# Altium integrated library Atmel Microcontroller 32-Bit ARM.IntLib: 116 symbols (part 2 of 10)
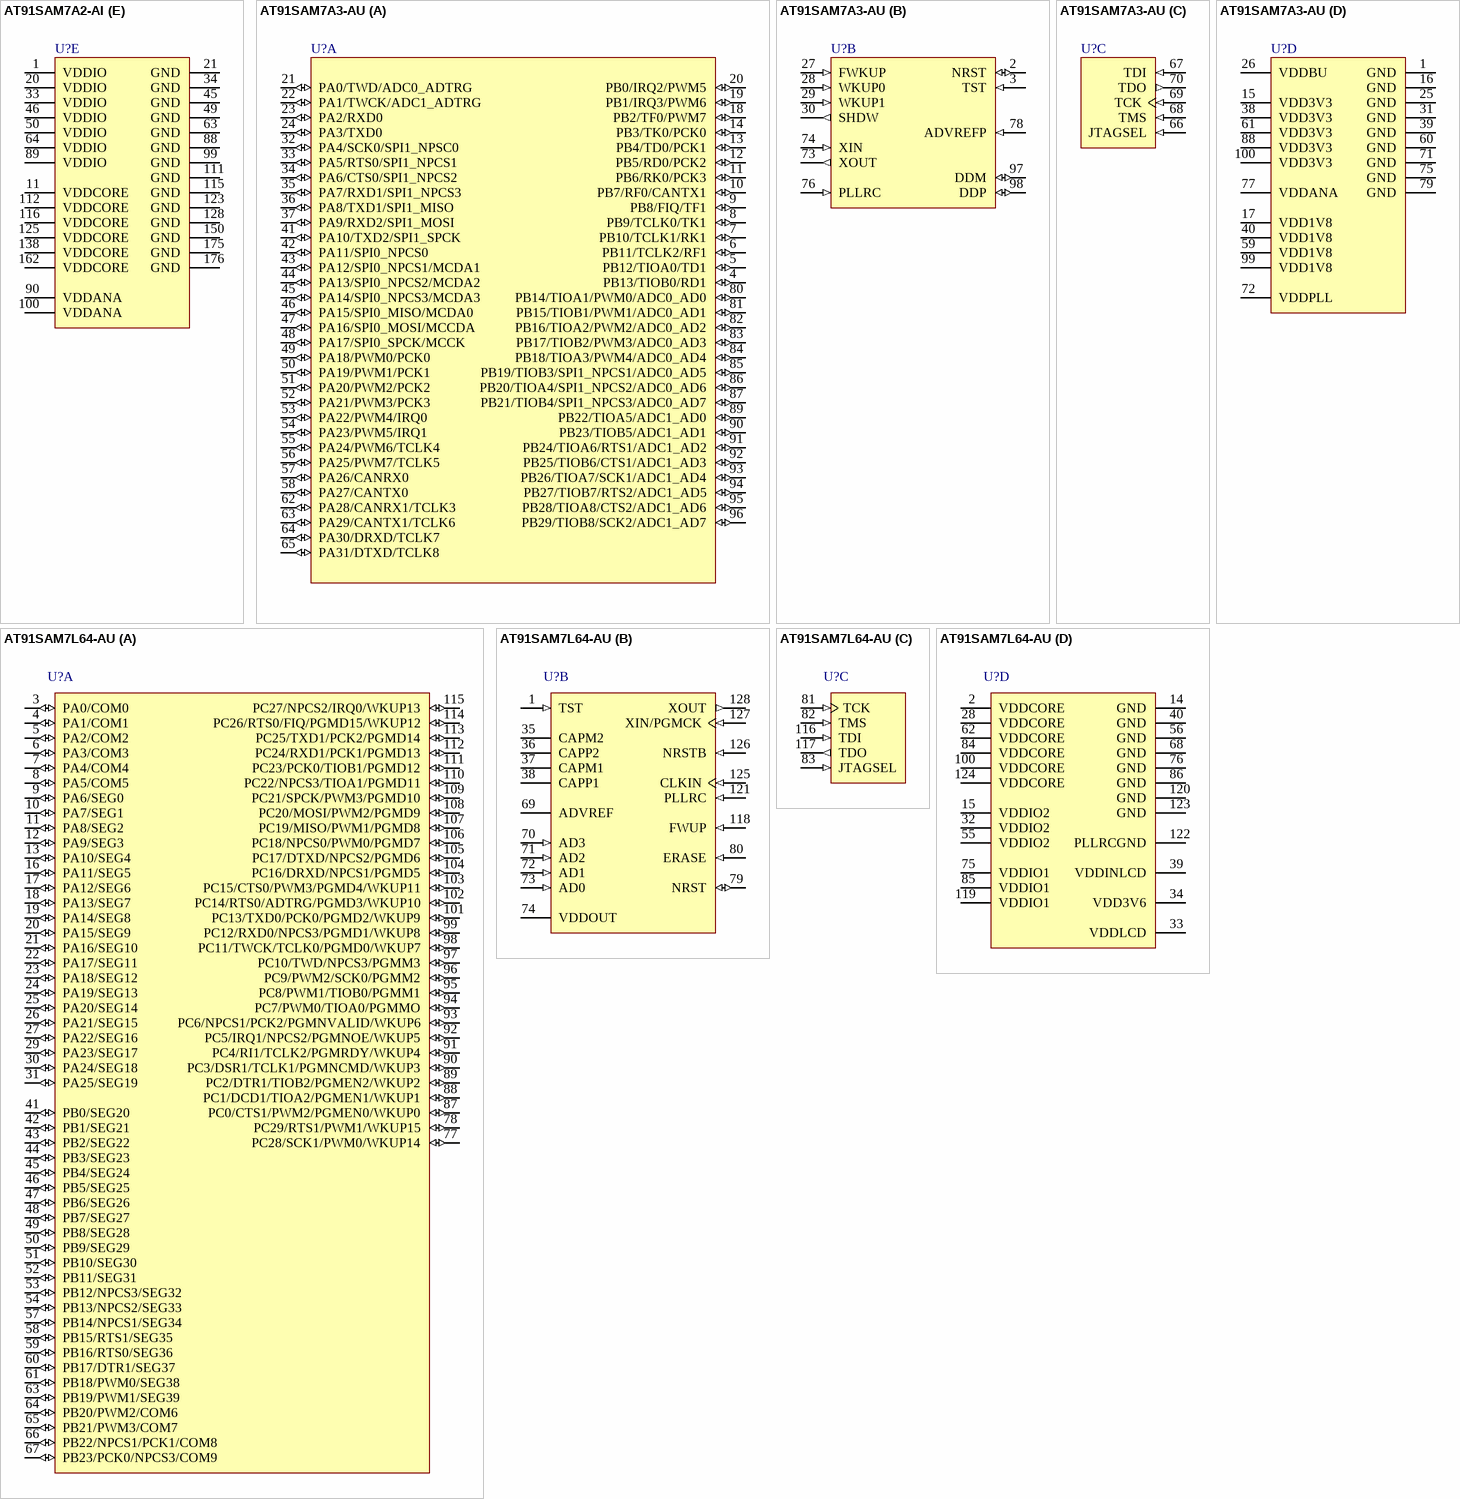
[diagram p53: symbols AT91SAM7A2-AI to AT91SAM7L64-AU]

## AT91SAM7A2-AI
designator U?
AT91 ARM Thumb-based 32-bit Microcontroller, 16KB SRAM, EBI, 4CAN, 2x8-ch. 10-bit ADC, 176-Pin LQFP, Industrial Grade (-40°C to 85°C); ComponentAvailability: Not recommended for new design.; Published: 16-Oct-2006; DatasheetVersion: revBS, Jul-2004; PackageVersion: Jul-2004; PackageReference: LQFP176; Publisher: Altium Limited; PackageDescription: 176-Pin Thin Quad Flat Pack 0.5 mm Pitch; Code_JEDEC: MS-026-BGA; ComponentLink1Description: Manufacturer Link; ComponentLink1URL: http://www.atmel.com/products/AT91/default.asp?; ComponentLink2Description: AT91SAM7A2 Summary; ComponentLink2URL: http://www.atmel.com/dyn/resources/prod_documents/6021S.pdf; ComponentLink3Description: ARM7TDMI Reference Manual; ComponentLink3URL: http://www.atmel.com/dyn/resources/prod_documents/DDI0029G_7TDMI_R3_trm.pdf; ComponentLink4Description: Atmel.com Home; ComponentLink4URL: http://www.atmel.com
footprint LQFP176_N (Thin QFP, 176-Leads, Body 24x24mm, Pitch 0.5mm, IPC Medium Density)
footprint LQFP176_L (Thin QFP, 176-Leads, Body 24x24mm, Pitch 0.5mm, IPC High Density)
footprint LQFP176_M (Thin QFP, 176-Leads, Body 24x24mm, Pitch 0.5mm, IPC Low Density)
part A pins: 5 SCK0/MPIO (io), 6 TXD0/MPIO (io), 7 RXD0/MPIO (io), 8 SCK1/MPIO (io), 9 TXD1/MPIO (io), 10 RXD1/MPIO (io), 16 SPCK/MPIO (io), 17 MISO/MPIO (io), 18 MOSI/MPIO (io), 19 NPCS0/MPIO (io), 22 NPCS1/MPIO (io), 23 NPCS2/MPIO (io), 24 NPCS3/MPIO (io), 25 T0TIOA0/MPIO (io), 26 T0TIOB0/MPIO (io), 27 T0TCLK0/MPIO (io), 28 T0TIOA1/MPIO (io), 29 T0TIOB1/MPIO (io), 30 T0TCLK1/MPIO (io), 31 T0TIOA2/MPIO (io), 32 T0TIOB2/MPIO (io), 35 T0TCLK2/MPIO (io), 36 T1TIOA0/MPIO (io), 37 T1TIOB0/MPIO (io), 38 T1TCLK0/MPIO (io), 40 UPIO0 (io), 41 UPIO1 (io), 42 UPIO2 (io), 43 UPIO3 (io), 44 UPIO4 (io), 47 UPIO5 (io), 48 UPIO6 (io), 51 UPIO7 (io), 52 UPIO8 (io), 53 UPIO9 (io), 54 UPIO10 (io), 55 UPIO11 (io), 56 UPIO12 (io), 57 UPIO13 (io), 58 UPIO14 (io), 59 UPIO15 (io), 60 UPIO16 (io), 61 UPIO17 (io), 62 UPIO18 (io), 65 UPIO19 (io), 66 UPIO20 (io), 67 UPIO21 (io), 68 UPIO22 (io), 69 UPIO23 (io), 70 UPIO24 (io), 71 UPIO25 (io), 72 UPIO26 (io), 73 UPIO27 (io), 74 UPIO28 (io), 75 UPIO29 (io), 76 UPIO30/NWAIT (io), 77 UPIO31/CORECLK (io)
part B pins: 130 D8 (io), 131 D1 (io), 132 D0 (io), 135 ADD1 (hiz), 136 D9 (io), 137 D2 (io), 139 D10 (io), 140 D3 (io), 141 D11 (io), 142 D4 (io), 143 D12 (io), 144 D5 (io), 145 D13 (io), 146 D6 (io), 147 D14 (io), 148 D7 (io), 149 D15 (io), 151 ADD0/NLB (hiz), 152 ADD17 (hiz), 153 ADD16 (hiz), 154 ADD15 (hiz), 155 ADD14 (hiz), 156 ADD13 (hiz), 157 ADD12 (hiz), 158 ADD11 (hiz), 159 ADD10 (hiz), 160 ADD9 (hiz), 161 ADD20/CS3 (hiz), 166 ADD19 (hiz), 167 ADD18 (hiz), 168 ADD8 (hiz), 169 ADD7 (hiz), 170 ADD6 (hiz), 171 ADD2 (hiz), 172 ADD3 (hiz), 173 ADD4 (hiz), 174 ADD5 (hiz)
part C pins: 2 IRQ0 (in), 3 IRQ1 (in), 4 FIQ (in), 12 CANTX3 (out), 13 CANRX3 (in), 14 CAPT0 (in), 15 CAPT1 (in), 39 NRESET (in), 78 CANTX0 (out), 79 CANRX0 (in), 80 CANTX1 (out), 81 CANRX1 (in), 82 CANTX2 (out), 83 CANRX2 (in), 84 PWM0 (out), 85 PWM1 (out), 86 PWM2 (out), 87 PWM3 (out), 91 VREFP0 (in), 92 ANA0IN0 (in), 93 ANA0IN1 (in), 94 ANA0IN2 (in), 95 ANA0IN3 (in), 96 ANA0IN4 (in), 97 ANA0IN5 (in), 98 ANA0IN6 (in), 101 ANA0IN7 (in), 102 VREFP1 (in), 103 ANA1IN0 (in), 104 ANA1IN1 (in), 105 ANA1IN2 (in), 106 ANA1IN3 (in), 107 ANA1IN4 (in), 108 ANA1IN5 (in), 109 ANA1IN6 (in), 110 ANA1IN7 (in), 113 RTCKI (in), 114 RTCKO (out), 124 PLLRC (in), 126 MCKI (in), 127 MCKO (out), 129 NWR1/NUB (hiz), 133 NOE/NRD (hiz), 134 NCS0 (hiz), 163 NWR0/NWE (hiz), 164 NCS2 (hiz), 165 NCS1 (hiz)
part D pins: 117 SCANEN (in), 118 TEST (in), 119 TMS (in), 120 TDO (out), 121 TDI (in), 122 TCK (in)
part E pins: 1 VDDIO (power), 11 VDDCORE (power), 20 VDDIO (power), 21 GND (power), 33 VDDIO (power), 34 GND (power), 45 GND (power), 46 VDDIO (power), 49 GND (power), 50 VDDIO (power), 63 GND (power), 64 VDDIO (power), 88 GND (power), 89 VDDIO (power), 90 VDDANA (power), 99 GND (power), 100 VDDANA (power), 111 GND (power), 112 VDDCORE (power), 115 GND (power), 116 VDDCORE (power), 123 GND (power), 125 VDDCORE (power), 128 GND (power), 138 VDDCORE (power), 150 GND (power), 162 VDDCORE (power), 175 GND (power), 176 GND (power)

## AT91SAM7A3-AU
designator U?
AT91 ARM Thumb-based 32-bit Microcontroller, 256KB Flash, 32KB SRAM, 2CAN, 100-Pin LQFP, Industrial Grade (-40°C to 85°C), Pb-Free; Published: 16-Oct-2006; DatasheetVersion: revE, Dec-2006; PackageVersion: Apr-2006; PackageReference: LQFP100; Publisher: Altium Limited; PackageDescription: 100-Pin Thin Quad Flat Pack 0.5 mm Pitch; Supplier 1: Digi-Key; Supplier Part Number 1: AT91SAM7A3-AU-ND; Supplier 2: Farnell; Supplier Part Number 2: 1455079; Supplier 3: Mouser; Supplier Part Number 3: 556-A91SAM7A3AU; Code_JEDEC: MS-026-BED; ComponentLink1Description: Manufacturer Link; ComponentLink1URL: http://www.atmel.com/products/AT91/default.asp?; ComponentLink2Description: AT91SAM7A3 Datasheet; ComponentLink2URL: http://www.atmel.com/dyn/resources/prod_documents/doc6042.pdf; ComponentLink3Description: AT91SAM7A3 Summary; ComponentLink3URL: http://www.atmel.com/dyn/resources/prod_documents/6042s.pdf; ComponentLink4Description: ARM7TDMI Reference Manual; ComponentLink4URL: http://www.atmel.com/dyn/resources/prod_documents/DDI0029G_7TDMI_R3_trm.pdf; ComponentLink5Description: Atmel.com Home; ComponentLink5URL: http://www.atmel.com
footprint LQFP100_N (Thin QFP, 100-Leads, Body 14x14mm, Pitch 0.5mm, IPC Medium Density)
footprint LQFP100_L (Thin QFP, 100-Leads, Body 14x14mm, Pitch 0.5mm, IPC High Density)
footprint LQFP100_M (Thin QFP, 100-Leads, Body 14x14mm, Pitch 0.5mm, IPC Low Density)
part A pins: 4 PB13/TIOB0/RD1 (io), 5 PB12/TIOA0/TD1 (io), 6 PB11/TCLK2/RF1 (io), 7 PB10/TCLK1/RK1 (io), 8 PB9/TCLK0/TK1 (io), 9 PB8/FIQ/TF1 (io), 10 PB7/RF0/CANTX1 (io), 11 PB6/RK0/PCK3 (io), 12 PB5/RD0/PCK2 (io), 13 PB4/TD0/PCK1 (io), 14 PB3/TK0/PCK0 (io), 18 PB2/TF0/PWM7 (io), 19 PB1/IRQ3/PWM6 (io), 20 PB0/IRQ2/PWM5 (io), 21 PA0/TWD/ADC0_ADTRG (io), 22 PA1/TWCK/ADC1_ADTRG (io), 23 PA2/RXD0 (io), 24 PA3/TXD0 (io), 32 PA4/SCK0/SPI1_NPSC0 (io), 33 PA5/RTS0/SPI1_NPCS1 (io), 34 PA6/CTS0/SPI1_NPCS2 (io), 35 PA7/RXD1/SPI1_NPCS3 (io), 36 PA8/TXD1/SPI1_MISO (io), 37 PA9/RXD2/SPI1_MOSI (io), 41 PA10/TXD2/SPI1_SPCK (io), 42 PA11/SPI0_NPCS0 (io), 43 PA12/SPI0_NPCS1/MCDA1 (io), 44 PA13/SPI0_NPCS2/MCDA2 (io), 45 PA14/SPI0_NPCS3/MCDA3 (io), 46 PA15/SPI0_MISO/MCDA0 (io), 47 PA16/SPI0_MOSI/MCCDA (io), 48 PA17/SPI0_SPCK/MCCK (io), 49 PA18/PWM0/PCK0 (io), 50 PA19/PWM1/PCK1 (io), 51 PA20/PWM2/PCK2 (io), 52 PA21/PWM3/PCK3 (io), 53 PA22/PWM4/IRQ0 (io), 54 PA23/PWM5/IRQ1 (io), 55 PA24/PWM6/TCLK4 (io), 56 PA25/PWM7/TCLK5 (io), 57 PA26/CANRX0 (io), 58 PA27/CANTX0 (io), 62 PA28/CANRX1/TCLK3 (io), 63 PA29/CANTX1/TCLK6 (io), 64 PA30/DRXD/TCLK7 (io), 65 PA31/DTXD/TCLK8 (io), 80 PB14/TIOA1/PWM0/ADC0_AD0 (io), 81 PB15/TIOB1/PWM1/ADC0_AD1 (io), 82 PB16/TIOA2/PWM2/ADC0_AD2 (io), 83 PB17/TIOB2/PWM3/ADC0_AD3 (io), 84 PB18/TIOA3/PWM4/ADC0_AD4 (io), 85 PB19/TIOB3/SPI1_NPCS1/ADC0_AD5 (io), 86 PB20/TIOA4/SPI1_NPCS2/ADC0_AD6 (io), 87 PB21/TIOB4/SPI1_NPCS3/ADC0_AD7 (io), 89 PB22/TIOA5/ADC1_AD0 (io), 90 PB23/TIOB5/ADC1_AD1 (io), 91 PB24/TIOA6/RTS1/ADC1_AD2 (io), 92 PB25/TIOB6/CTS1/ADC1_AD3 (io), 93 PB26/TIOA7/SCK1/ADC1_AD4 (io), 94 PB27/TIOB7/RTS2/ADC1_AD5 (io), 95 PB28/TIOA8/CTS2/ADC1_AD6 (io), 96 PB29/TIOB8/SCK2/ADC1_AD7 (io)
part B pins: 2 NRST (io), 3 TST (in), 27 FWKUP (in), 28 WKUP0 (in), 29 WKUP1 (in), 30 SHDW (out), 73 XOUT (out), 74 XIN (in), 76 PLLRC (in), 78 ADVREFP (in), 97 DDM (io), 98 DDP (io)
part C pins: 66 JTAGSEL (in), 67 TDI (in), 68 TMS (in), 69 TCK (in), 70 TDO (out)
part D pins: 1 GND (power), 15 VDD3V3 (power), 16 GND (power), 17 VDD1V8 (power), 25 GND (power), 26 VDDBU (power), 31 GND (power), 38 VDD3V3 (power), 39 GND (power), 40 VDD1V8 (power), 59 VDD1V8 (power), 60 GND (power), 61 VDD3V3 (power), 71 GND (power), 72 VDDPLL (power), 75 GND (power), 77 VDDANA (power), 79 GND (power), 88 VDD3V3 (power), 99 VDD1V8 (power), 100 VDD3V3 (power)

## AT91SAM7L64-AU
designator U?
AT91 ARM Thumb-based 32-bit Microcontroller, Ultra Low Power, 64KB Flash, 6KB SRAM, 128-pin LQFP, Industrial Grade (-40°C to 85°C), Pb-Free; Published: 20-Sep-2010; DatasheetVersion: revA, Feb-2008; PackageVersion: 2008; PackageReference: LQFP128; Publisher: Altium Limited; PackageDescription: 128-Pin Thin Quad Flat Pack Rectangular 0.5 mm Pitch; Supplier 1: Digi-Key; Supplier Part Number 1: AT91SAM7L64-AU-ND; Supplier 2: Farnell; Supplier Part Number 2: 1748501; Supplier 3: Mouser; Supplier Part Number 3: 556-AT91SAM7L64-AU; Code_JEDEC: MS-026; ComponentLink1Description: Manufacturer Link; ComponentLink1URL: http://www.atmel.com/products/AT91/default.asp?; ComponentLink2Description: AT91SAM7L128/64 Datasheet; ComponentLink2URL: http://www.atmel.com/dyn/resources/prod_documents/doc6257.pdf; ComponentLink3Description: AT91SAM7L128/64 Summary; ComponentLink3URL: http://www.atmel.com/dyn/resources/prod_documents/6257s.pdf; ComponentLink4Description: ARM7TDMI Reference Manual; ComponentLink4URL: http://www.atmel.com/dyn/resources/prod_documents/DDI0029G_7TDMI_R3_trm.pdf; ComponentLink5Description: Atmel.com Home; ComponentLink5URL: http://www.atmel.com
footprint LQFP128_N (Thin QFP, 128-Leads, Body 20x14 mm, Pitch 0.5mm, IPC Medium Density)
footprint LQFP128_L (Thin QFP, 128-Leads, Body 20x14 mm, Pitch 0.5mm, IPC High Density)
footprint LQFP128_M (Thin QFP, 128-Leads, Body 20x14 mm, Pitch 0.5mm, IPC Low Density)
part A pins: 3 PA0/COM0 (io), 4 PA1/COM1 (io), 5 PA2/COM2 (io), 6 PA3/COM3 (io), 7 PA4/COM4 (io), 8 PA5/COM5 (io), 9 PA6/SEG0 (io), 10 PA7/SEG1 (io), 11 PA8/SEG2 (io), 12 PA9/SEG3 (io), 13 PA10/SEG4 (io), 16 PA11/SEG5 (io), 17 PA12/SEG6 (io), 18 PA13/SEG7 (io), 19 PA14/SEG8 (io), 20 PA15/SEG9 (io), 21 PA16/SEG10 (io), 22 PA17/SEG11 (io), 23 PA18/SEG12 (io), 24 PA19/SEG13 (io), 25 PA20/SEG14 (io), 26 PA21/SEG15 (io), 27 PA22/SEG16 (io), 29 PA23/SEG17 (io), 30 PA24/SEG18 (io), 31 PA25/SEG19 (io), 41 PB0/SEG20 (io), 42 PB1/SEG21 (io), 43 PB2/SEG22 (io), 44 PB3/SEG23 (io), 45 PB4/SEG24 (io), 46 PB5/SEG25 (io), 47 PB6/SEG26 (io), 48 PB7/SEG27 (io), 49 PB8/SEG28 (io), 50 PB9/SEG29 (io), 51 PB10/SEG30 (io), 52 PB11/SEG31 (io), 53 PB12/NPCS3/SEG32 (io), 54 PB13/NPCS2/SEG33 (io), 57 PB14/NPCS1/SEG34 (io), 58 PB15/RTS1/SEG35 (io), 59 PB16/RTS0/SEG36 (io), 60 PB17/DTR1/SEG37 (io), 61 PB18/PWM0/SEG38 (io), 63 PB19/PWM1/SEG39 (io), 64 PB20/PWM2/COM6 (io), 65 PB21/PWM3/COM7 (io), 66 PB22/NPCS1/PCK1/COM8 (io), 67 PB23/PCK0/NPCS3/COM9 (io), 77 PC28/SCK1/PWM0/WKUP14 (io), 78 PC29/RTS1/PWM1/WKUP15 (io), 87 PC0/CTS1/PWM2/PGMEN0/WKUP0 (io), 88 PC1/DCD1/TIOA2/PGMEN1/WKUP1 (io), 89 PC2/DTR1/TIOB2/PGMEN2/WKUP2 (io), 90 PC3/DSR1/TCLK1/PGMNCMD/WKUP3 (io), 91 PC4/RI1/TCLK2/PGMRDY/WKUP4 (io), 92 PC5/IRQ1/NPCS2/PGMNOE/WKUP5 (io), 93 PC6/NPCS1/PCK2/PGMNVALID/WKUP6 (io), 94 PC7/PWM0/TIOA0/PGMMO (io), 95 PC8/PWM1/TIOB0/PGMM1 (io), 96 PC9/PWM2/SCK0/PGMM2 (io), 97 PC10/TWD/NPCS3/PGMM3 (io), 98 PC11/TWCK/TCLK0/PGMD0/WKUP7 (io), 99 PC12/RXD0/NPCS3/PGMD1/WKUP8 (io), 101 PC13/TXD0/PCK0/PGMD2/WKUP9 (io), 102 PC14/RTS0/ADTRG/PGMD3/WKUP10 (io), 103 PC15/CTS0/PWM3/PGMD4/WKUP11 (io), 104 PC16/DRXD/NPCS1/PGMD5 (io), 105 PC17/DTXD/NPCS2/PGMD6 (io), 106 PC18/NPCS0/PWM0/PGMD7 (io), 107 PC19/MISO/PWM1/PGMD8 (io), 108 PC20/MOSI/PWM2/PGMD9 (io), 109 PC21/SPCK/PWM3/PGMD10 (io), 110 PC22/NPCS3/TIOA1/PGMD11 (io), 111 PC23/PCK0/TIOB1/PGMD12 (io), 112 PC24/RXD1/PCK1/PGMD13 (io), 113 PC25/TXD1/PCK2/PGMD14 (io), 114 PC26/RTS0/FIQ/PGMD15/WKUP12 (io), 115 PC27/NPCS2/IRQ0/WKUP13 (io)
part B pins: 1 TST (in), 35 CAPM2, 36 CAPP2, 37 CAPM1, 38 CAPP1, 69 ADVREF (power), 70 AD3 (in), 71 AD2 (in), 72 AD1 (in), 73 AD0 (in), 74 VDDOUT (power), 79 NRST (io), 80 ERASE (in), 118 FWUP (in), 121 PLLRC (in), 125 CLKIN (in), 126 NRSTB (in), 127 XIN/PGMCK (in), 128 XOUT (out)
part C pins: 81 TCK (in), 82 TMS (in), 83 JTAGSEL (in), 116 TDI (in), 117 TDO (out)
part D pins: 2 VDDCORE (power), 14 GND (power), 15 VDDIO2 (power), 28 VDDCORE (power), 32 VDDIO2 (power), 33 VDDLCD (power), 34 VDD3V6 (power), 39 VDDINLCD (power), 40 GND (power), 55 VDDIO2 (power), 56 GND (power), 62 VDDCORE (power), 68 GND (power), 75 VDDIO1 (power), 76 GND (power), 84 VDDCORE (power), 85 VDDIO1 (power), 86 GND (power), 100 VDDCORE (power), 119 VDDIO1 (power), 120 GND (power), 122 PLLRCGND (power), 123 GND (power), 124 VDDCORE (power)

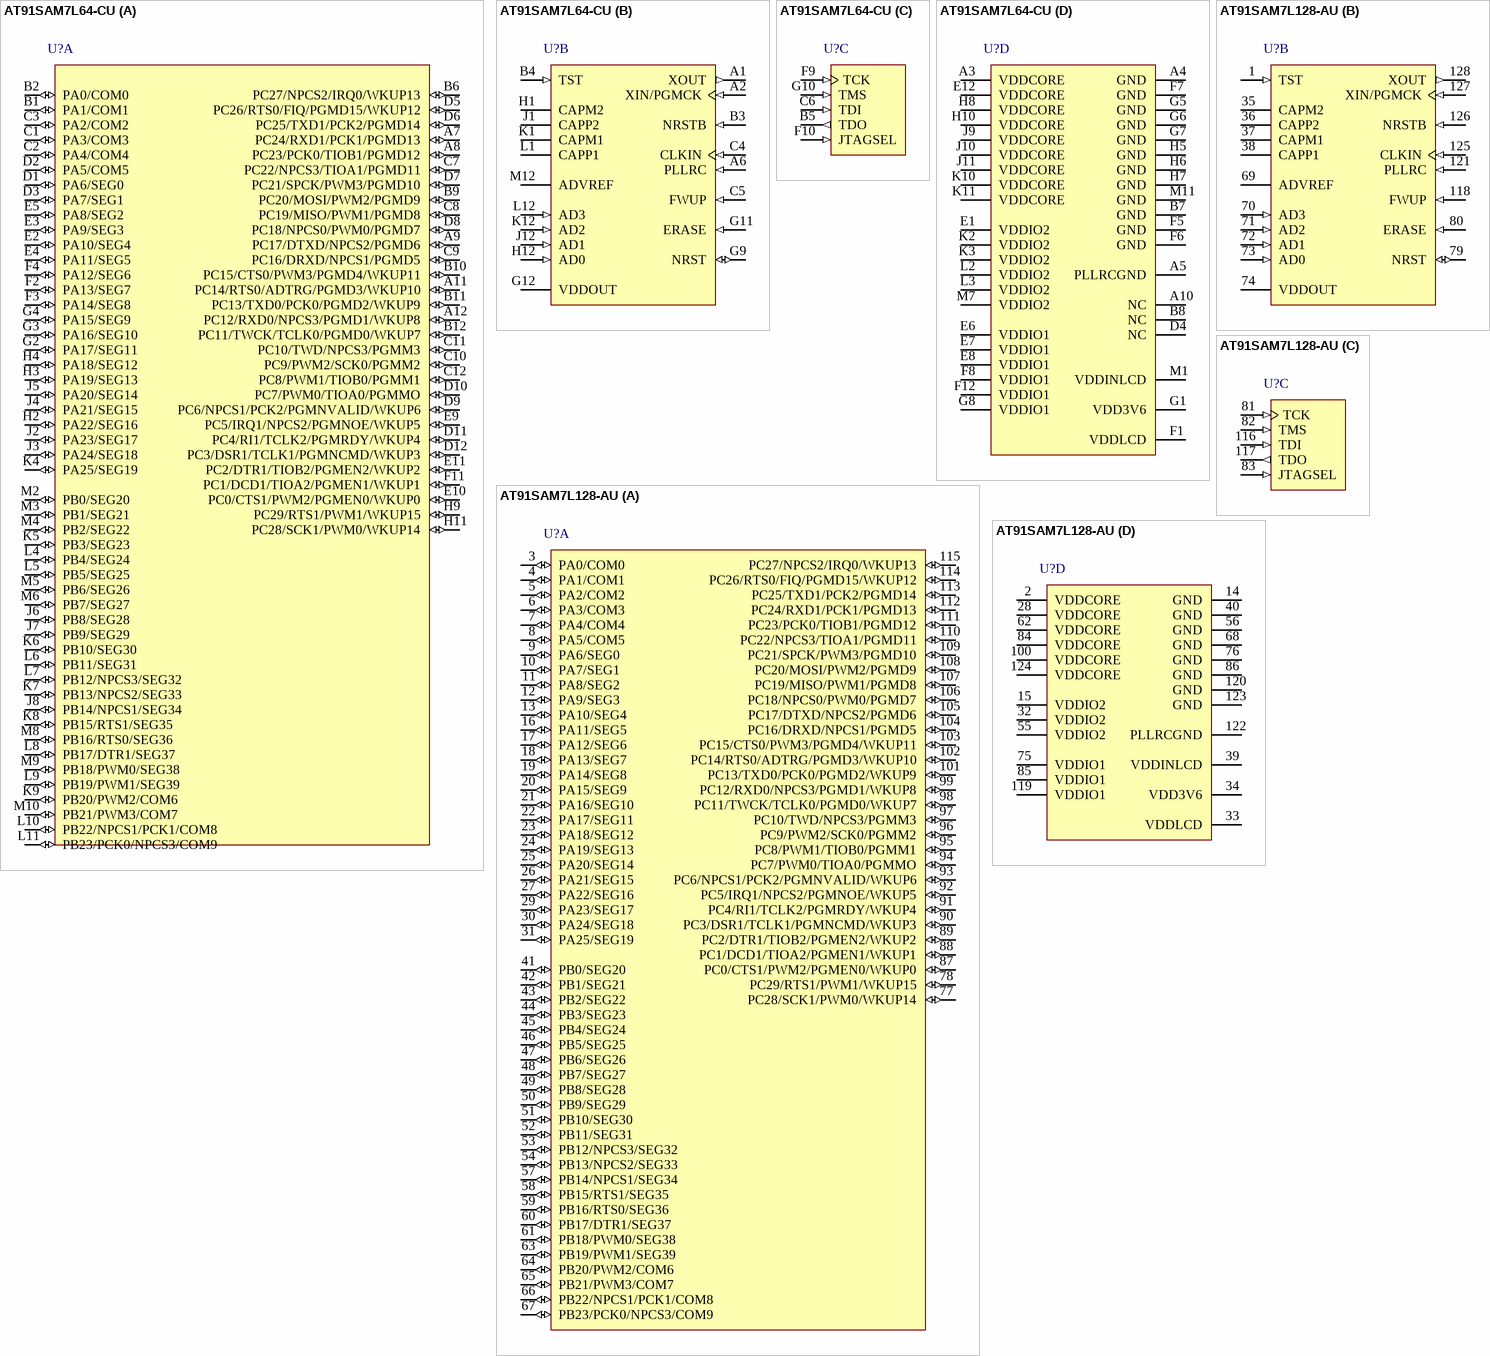
[diagram p7: symbols AT91SAM7L64-CU to AT91SAM7L128-AU]

## AT91SAM7L64-CU
designator U?
AT91 ARM Thumb-based 32-bit Microcontroller, Ultra Low Power, 64KB Flash, 6KB SRAM, 144-pin LFBGA, Industrial Grade (-40°C to 85°C), Pb-Free; Published: 20-Sep-2010; DatasheetVersion: revA, Feb-2008; PackageVersion: 2008; PackageReference: LFBGA144; Publisher: Altium Limited; PackageDescription: 144-Ball Low Profile Fine Pitch BGA, 10 x 10 x 1.4 mm Body, 0.8 mm Pitch; Supplier 1: Digi-Key; Supplier Part Number 1: AT91SAM7L64-CU-ND; Supplier 2: Mouser; Supplier Part Number 2: 556-AT91SAM7L64-CU; Code_JEDEC: MS-026; ComponentLink1Description: Manufacturer Link; ComponentLink1URL: http://www.atmel.com/products/AT91/default.asp?; ComponentLink2Description: AT91SAM7L128/64 Datasheet; ComponentLink2URL: http://www.atmel.com/dyn/resources/prod_documents/doc6257.pdf; ComponentLink3Description: AT91SAM7L128/64 Summary; ComponentLink3URL: http://www.atmel.com/dyn/resources/prod_documents/6257s.pdf; ComponentLink4Description: ARM7TDMI Reference Manual; ComponentLink4URL: http://www.atmel.com/dyn/resources/prod_documents/DDI0029G_7TDMI_R3_trm.pdf; ComponentLink5Description: Atmel.com Home; ComponentLink5URL: http://www.atmel.com
footprint LFBGA144 (BGA, 144-Leads, Body 10x10mm, Pitch 0.8mm)
part A pins: A7 PC24/RXD1/PCK1/PGMD13 (io), A8 PC23/PCK0/TIOB1/PGMD12 (io), A9 PC17/DTXD/NPCS2/PGMD6 (io), A11 PC14/RTS0/ADTRG/PGMD3/WKUP10 (io), A12 PC12/RXD0/NPCS3/PGMD1/WKUP8 (io), B1 PA1/COM1 (io), B2 PA0/COM0 (io), B6 PC27/NPCS2/IRQ0/WKUP13 (io), B9 PC20/MOSI/PWM2/PGMD9 (io), B10 PC15/CTS0/PWM3/PGMD4/WKUP11 (io), B11 PC13/TXD0/PCK0/PGMD2/WKUP9 (io), B12 PC11/TWCK/TCLK0/PGMD0/WKUP7 (io), C1 PA3/COM3 (io), C2 PA4/COM4 (io), C3 PA2/COM2 (io), C7 PC22/NPCS3/TIOA1/PGMD11 (io), C8 PC19/MISO/PWM1/PGMD8 (io), C9 PC16/DRXD/NPCS1/PGMD5 (io), C10 PC9/PWM2/SCK0/PGMM2 (io), C11 PC10/TWD/NPCS3/PGMM3 (io), C12 PC8/PWM1/TIOB0/PGMM1 (io), D1 PA6/SEG0 (io), D2 PA5/COM5 (io), D3 PA7/SEG1 (io), D5 PC26/RTS0/FIQ/PGMD15/WKUP12 (io), D6 PC25/TXD1/PCK2/PGMD14 (io), D7 PC21/SPCK/PWM3/PGMD10 (io), D8 PC18/NPCS0/PWM0/PGMD7 (io), D9 PC6/NPCS1/PCK2/PGMNVALID/WKUP6 (io), D10 PC7/PWM0/TIOA0/PGMMO (io), D11 PC4/RI1/TCLK2/PGMRDY/WKUP4 (io), D12 PC3/DSR1/TCLK1/PGMNCMD/WKUP3 (io), E2 PA10/SEG4 (io), E3 PA9/SEG3 (io), E4 PA11/SEG5 (io), E5 PA8/SEG2 (io), E9 PC5/IRQ1/NPCS2/PGMNOE/WKUP5 (io), E10 PC0/CTS1/PWM2/PGMEN0/WKUP0 (io), E11 PC2/DTR1/TIOB2/PGMEN2/WKUP2 (io), F2 PA13/SEG7 (io), F3 PA14/SEG8 (io), F4 PA12/SEG6 (io), F11 PC1/DCD1/TIOA2/PGMEN1/WKUP1 (io), G2 PA17/SEG11 (io), G3 PA16/SEG10 (io), G4 PA15/SEG9 (io), H2 PA22/SEG16 (io), H3 PA19/SEG13 (io), H4 PA18/SEG12 (io), H9 PC29/RTS1/PWM1/WKUP15 (io), H11 PC28/SCK1/PWM0/WKUP14 (io), J2 PA23/SEG17 (io), J3 PA24/SEG18 (io), J4 PA21/SEG15 (io), J5 PA20/SEG14 (io), J6 PB8/SEG28 (io), J7 PB9/SEG29 (io), J8 PB14/NPCS1/SEG34 (io), K4 PA25/SEG19 (io), K5 PB3/SEG23 (io), K6 PB10/SEG30 (io), K7 PB13/NPCS2/SEG33 (io), K8 PB15/RTS1/SEG35 (io), K9 PB20/PWM2/COM6 (io), L4 PB4/SEG24 (io), L5 PB5/SEG25 (io), L6 PB11/SEG31 (io), L7 PB12/NPCS3/SEG32 (io), L8 PB17/DTR1/SEG37 (io), L9 PB19/PWM1/SEG39 (io), L10 PB22/NPCS1/PCK1/COM8 (io), L11 PB23/PCK0/NPCS3/COM9 (io), M2 PB0/SEG20 (io), M3 PB1/SEG21 (io), M4 PB2/SEG22 (io), M5 PB6/SEG26 (io), M6 PB7/SEG27 (io), M8 PB16/RTS0/SEG36 (io), M9 PB18/PWM0/SEG38 (io), M10 PB21/PWM3/COM7 (io)
part B pins: A1 XOUT (out), A2 XIN/PGMCK (in), A6 PLLRC (in), B3 NRSTB (in), B4 TST (in), C4 CLKIN (in), C5 FWUP (in), G9 NRST (io), G11 ERASE (in), G12 VDDOUT (power), H1 CAPM2, H12 AD0 (in), J1 CAPP2, J12 AD1 (in), K1 CAPM1, K12 AD2 (in), L1 CAPP1, L12 AD3 (in), M12 ADVREF (power)
part C pins: B5 TDO (out), C6 TDI (in), F9 TCK (in), F10 JTAGSEL (in), G10 TMS (in)
part D pins: A3 VDDCORE (power), A4 GND (power), A5 PLLRCGND (power), A10 NC (power), B7 GND (power), B8 NC (power), D4 NC (power), E1 VDDIO2 (power), E6 VDDIO1 (power), E7 VDDIO1 (power), E8 VDDIO1 (power), E12 VDDCORE (power), F1 VDDLCD (power), F5 GND (power), F6 GND (power), F7 GND (power), F8 VDDIO1 (power), F12 VDDIO1 (power), G1 VDD3V6 (power), G5 GND (power), G6 GND (power), G7 GND (power), G8 VDDIO1 (power), H5 GND (power), H6 GND (power), H7 GND (power), H8 VDDCORE (power), H10 VDDCORE (power), J9 VDDCORE (power), J10 VDDCORE (power), J11 VDDCORE (power), K2 VDDIO2 (power), K3 VDDIO2 (power), K10 VDDCORE (power), K11 VDDCORE (power), L2 VDDIO2 (power), L3 VDDIO2 (power), M1 VDDINLCD (power), M7 VDDIO2 (power), M11 GND (power)

## AT91SAM7L128-AU
designator U?
AT91 ARM Thumb-based 32-bit Microcontroller, Ultra Low Power, 128KB Flash, 6KB SRAM, 128-pin LQFP, Industrial Grade (-40°C to 85°C), Pb-Free; Published: 20-Sep-2010; DatasheetVersion: revA, Feb-2008; PackageVersion: 2008; PackageReference: LQFP128; Publisher: Altium Limited; PackageDescription: 128-Pin Thin Quad Flat Pack Rectangular 0.5 mm Pitch; Supplier 1: Digi-Key; Supplier Part Number 1: AT91SAM7L128-AU-ND; Supplier 2: Farnell; Supplier Part Number 2: 1748500; Supplier 3: Mouser; Supplier Part Number 3: 556-AT91SAM7L128-AU; Code_JEDEC: MS-026; ComponentLink1Description: Manufacturer Link; ComponentLink1URL: http://www.atmel.com/products/AT91/default.asp?; ComponentLink2Description: AT91SAM7L128/64 Datasheet; ComponentLink2URL: http://www.atmel.com/dyn/resources/prod_documents/doc6257.pdf; ComponentLink3Description: AT91SAM7L128/64 Summary; ComponentLink3URL: http://www.atmel.com/dyn/resources/prod_documents/6257s.pdf; ComponentLink4Description: ARM7TDMI Reference Manual; ComponentLink4URL: http://www.atmel.com/dyn/resources/prod_documents/DDI0029G_7TDMI_R3_trm.pdf; ComponentLink5Description: Atmel.com Home; ComponentLink5URL: http://www.atmel.com
footprint LQFP128_N (Thin QFP, 128-Leads, Body 20x14 mm, Pitch 0.5mm, IPC Medium Density)
footprint LQFP128_L (Thin QFP, 128-Leads, Body 20x14 mm, Pitch 0.5mm, IPC High Density)
footprint LQFP128_M (Thin QFP, 128-Leads, Body 20x14 mm, Pitch 0.5mm, IPC Low Density)
part A pins: 3 PA0/COM0 (io), 4 PA1/COM1 (io), 5 PA2/COM2 (io), 6 PA3/COM3 (io), 7 PA4/COM4 (io), 8 PA5/COM5 (io), 9 PA6/SEG0 (io), 10 PA7/SEG1 (io), 11 PA8/SEG2 (io), 12 PA9/SEG3 (io), 13 PA10/SEG4 (io), 16 PA11/SEG5 (io), 17 PA12/SEG6 (io), 18 PA13/SEG7 (io), 19 PA14/SEG8 (io), 20 PA15/SEG9 (io), 21 PA16/SEG10 (io), 22 PA17/SEG11 (io), 23 PA18/SEG12 (io), 24 PA19/SEG13 (io), 25 PA20/SEG14 (io), 26 PA21/SEG15 (io), 27 PA22/SEG16 (io), 29 PA23/SEG17 (io), 30 PA24/SEG18 (io), 31 PA25/SEG19 (io), 41 PB0/SEG20 (io), 42 PB1/SEG21 (io), 43 PB2/SEG22 (io), 44 PB3/SEG23 (io), 45 PB4/SEG24 (io), 46 PB5/SEG25 (io), 47 PB6/SEG26 (io), 48 PB7/SEG27 (io), 49 PB8/SEG28 (io), 50 PB9/SEG29 (io), 51 PB10/SEG30 (io), 52 PB11/SEG31 (io), 53 PB12/NPCS3/SEG32 (io), 54 PB13/NPCS2/SEG33 (io), 57 PB14/NPCS1/SEG34 (io), 58 PB15/RTS1/SEG35 (io), 59 PB16/RTS0/SEG36 (io), 60 PB17/DTR1/SEG37 (io), 61 PB18/PWM0/SEG38 (io), 63 PB19/PWM1/SEG39 (io), 64 PB20/PWM2/COM6 (io), 65 PB21/PWM3/COM7 (io), 66 PB22/NPCS1/PCK1/COM8 (io), 67 PB23/PCK0/NPCS3/COM9 (io), 77 PC28/SCK1/PWM0/WKUP14 (io), 78 PC29/RTS1/PWM1/WKUP15 (io), 87 PC0/CTS1/PWM2/PGMEN0/WKUP0 (io), 88 PC1/DCD1/TIOA2/PGMEN1/WKUP1 (io), 89 PC2/DTR1/TIOB2/PGMEN2/WKUP2 (io), 90 PC3/DSR1/TCLK1/PGMNCMD/WKUP3 (io), 91 PC4/RI1/TCLK2/PGMRDY/WKUP4 (io), 92 PC5/IRQ1/NPCS2/PGMNOE/WKUP5 (io), 93 PC6/NPCS1/PCK2/PGMNVALID/WKUP6 (io), 94 PC7/PWM0/TIOA0/PGMMO (io), 95 PC8/PWM1/TIOB0/PGMM1 (io), 96 PC9/PWM2/SCK0/PGMM2 (io), 97 PC10/TWD/NPCS3/PGMM3 (io), 98 PC11/TWCK/TCLK0/PGMD0/WKUP7 (io), 99 PC12/RXD0/NPCS3/PGMD1/WKUP8 (io), 101 PC13/TXD0/PCK0/PGMD2/WKUP9 (io), 102 PC14/RTS0/ADTRG/PGMD3/WKUP10 (io), 103 PC15/CTS0/PWM3/PGMD4/WKUP11 (io), 104 PC16/DRXD/NPCS1/PGMD5 (io), 105 PC17/DTXD/NPCS2/PGMD6 (io), 106 PC18/NPCS0/PWM0/PGMD7 (io), 107 PC19/MISO/PWM1/PGMD8 (io), 108 PC20/MOSI/PWM2/PGMD9 (io), 109 PC21/SPCK/PWM3/PGMD10 (io), 110 PC22/NPCS3/TIOA1/PGMD11 (io), 111 PC23/PCK0/TIOB1/PGMD12 (io), 112 PC24/RXD1/PCK1/PGMD13 (io), 113 PC25/TXD1/PCK2/PGMD14 (io), 114 PC26/RTS0/FIQ/PGMD15/WKUP12 (io), 115 PC27/NPCS2/IRQ0/WKUP13 (io)
part B pins: 1 TST (in), 35 CAPM2, 36 CAPP2, 37 CAPM1, 38 CAPP1, 69 ADVREF (power), 70 AD3 (in), 71 AD2 (in), 72 AD1 (in), 73 AD0 (in), 74 VDDOUT (power), 79 NRST (io), 80 ERASE (in), 118 FWUP (in), 121 PLLRC (in), 125 CLKIN (in), 126 NRSTB (in), 127 XIN/PGMCK (in), 128 XOUT (out)
part C pins: 81 TCK (in), 82 TMS (in), 83 JTAGSEL (in), 116 TDI (in), 117 TDO (out)
part D pins: 2 VDDCORE (power), 14 GND (power), 15 VDDIO2 (power), 28 VDDCORE (power), 32 VDDIO2 (power), 33 VDDLCD (power), 34 VDD3V6 (power), 39 VDDINLCD (power), 40 GND (power), 55 VDDIO2 (power), 56 GND (power), 62 VDDCORE (power), 68 GND (power), 75 VDDIO1 (power), 76 GND (power), 84 VDDCORE (power), 85 VDDIO1 (power), 86 GND (power), 100 VDDCORE (power), 119 VDDIO1 (power), 120 GND (power), 122 PLLRCGND (power), 123 GND (power), 124 VDDCORE (power)

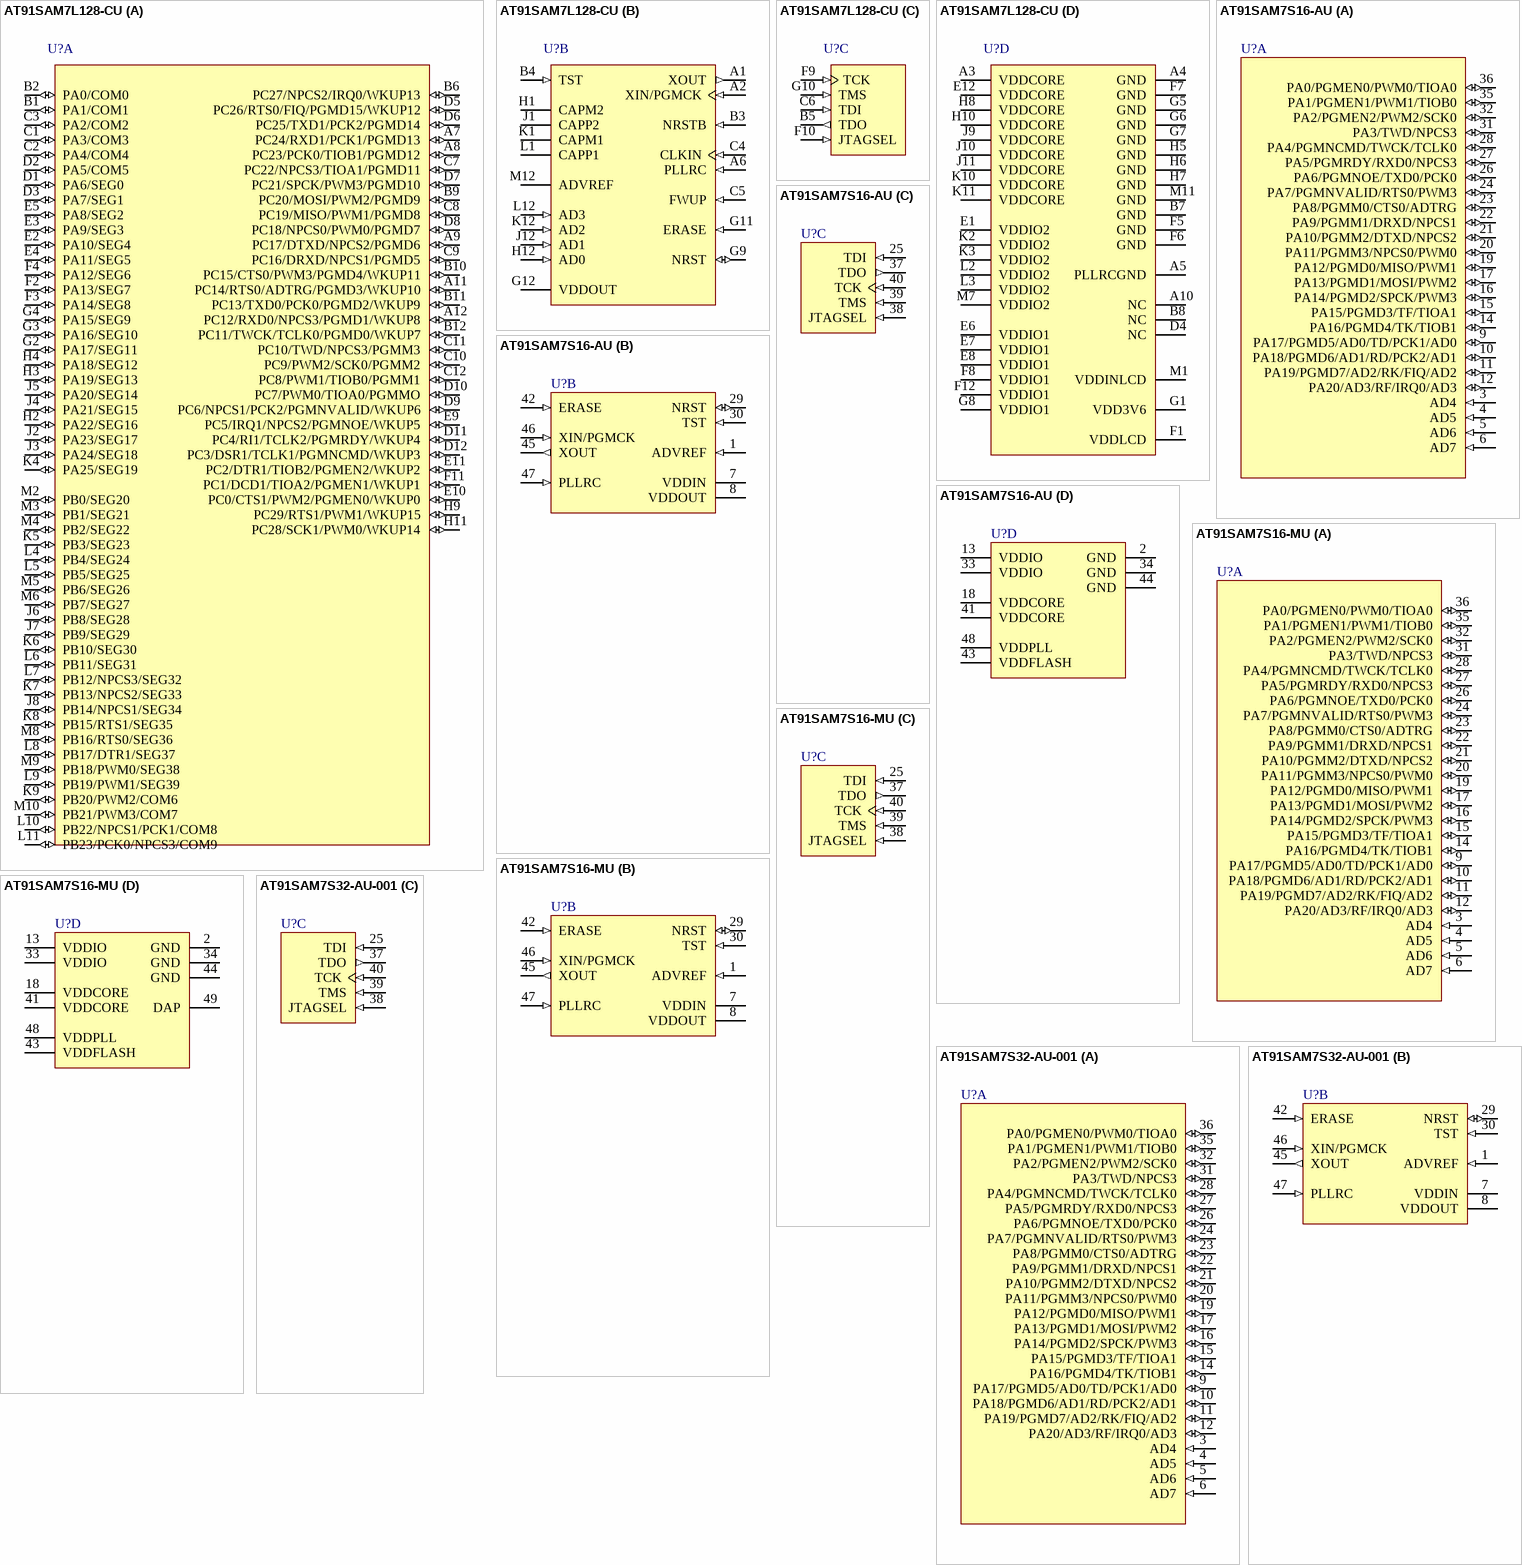
[diagram p8: symbols AT91SAM7L128-CU to AT91SAM7S32-AU-001]

## AT91SAM7L128-CU
designator U?
AT91 ARM Thumb-based 32-bit Microcontroller, Ultra Low Power, 128KB Flash, 6KB SRAM, 144-pin LFBGA, Industrial Grade (-40°C to 85°C), Pb-Free; Published: 20-Sep-2010; DatasheetVersion: revA, Feb-2008; PackageVersion: 2008; PackageReference: LFBGA144; Publisher: Altium Limited; PackageDescription: 144-Ball Low Profile Fine Pitch BGA, 10 x 10 x 1.4 mm Body, 0.8 mm Pitch; Supplier 1: Digi-Key; Supplier Part Number 1: AT91SAM7L128-CU-ND; Supplier 2: Mouser; Supplier Part Number 2: 556-AT91SAM7L128-CU; Code_JEDEC: MS-026; ComponentLink1Description: Manufacturer Link; ComponentLink1URL: http://www.atmel.com/products/AT91/default.asp?; ComponentLink2Description: AT91SAM7L128/64 Datasheet; ComponentLink2URL: http://www.atmel.com/dyn/resources/prod_documents/doc6257.pdf; ComponentLink3Description: AT91SAM7L128/64 Summary; ComponentLink3URL: http://www.atmel.com/dyn/resources/prod_documents/6257s.pdf; ComponentLink4Description: ARM7TDMI Reference Manual; ComponentLink4URL: http://www.atmel.com/dyn/resources/prod_documents/DDI0029G_7TDMI_R3_trm.pdf; ComponentLink5Description: Atmel.com Home; ComponentLink5URL: http://www.atmel.com
footprint LFBGA144 (BGA, 144-Leads, Body 10x10mm, Pitch 0.8mm)
part A pins: A7 PC24/RXD1/PCK1/PGMD13 (io), A8 PC23/PCK0/TIOB1/PGMD12 (io), A9 PC17/DTXD/NPCS2/PGMD6 (io), A11 PC14/RTS0/ADTRG/PGMD3/WKUP10 (io), A12 PC12/RXD0/NPCS3/PGMD1/WKUP8 (io), B1 PA1/COM1 (io), B2 PA0/COM0 (io), B6 PC27/NPCS2/IRQ0/WKUP13 (io), B9 PC20/MOSI/PWM2/PGMD9 (io), B10 PC15/CTS0/PWM3/PGMD4/WKUP11 (io), B11 PC13/TXD0/PCK0/PGMD2/WKUP9 (io), B12 PC11/TWCK/TCLK0/PGMD0/WKUP7 (io), C1 PA3/COM3 (io), C2 PA4/COM4 (io), C3 PA2/COM2 (io), C7 PC22/NPCS3/TIOA1/PGMD11 (io), C8 PC19/MISO/PWM1/PGMD8 (io), C9 PC16/DRXD/NPCS1/PGMD5 (io), C10 PC9/PWM2/SCK0/PGMM2 (io), C11 PC10/TWD/NPCS3/PGMM3 (io), C12 PC8/PWM1/TIOB0/PGMM1 (io), D1 PA6/SEG0 (io), D2 PA5/COM5 (io), D3 PA7/SEG1 (io), D5 PC26/RTS0/FIQ/PGMD15/WKUP12 (io), D6 PC25/TXD1/PCK2/PGMD14 (io), D7 PC21/SPCK/PWM3/PGMD10 (io), D8 PC18/NPCS0/PWM0/PGMD7 (io), D9 PC6/NPCS1/PCK2/PGMNVALID/WKUP6 (io), D10 PC7/PWM0/TIOA0/PGMMO (io), D11 PC4/RI1/TCLK2/PGMRDY/WKUP4 (io), D12 PC3/DSR1/TCLK1/PGMNCMD/WKUP3 (io), E2 PA10/SEG4 (io), E3 PA9/SEG3 (io), E4 PA11/SEG5 (io), E5 PA8/SEG2 (io), E9 PC5/IRQ1/NPCS2/PGMNOE/WKUP5 (io), E10 PC0/CTS1/PWM2/PGMEN0/WKUP0 (io), E11 PC2/DTR1/TIOB2/PGMEN2/WKUP2 (io), F2 PA13/SEG7 (io), F3 PA14/SEG8 (io), F4 PA12/SEG6 (io), F11 PC1/DCD1/TIOA2/PGMEN1/WKUP1 (io), G2 PA17/SEG11 (io), G3 PA16/SEG10 (io), G4 PA15/SEG9 (io), H2 PA22/SEG16 (io), H3 PA19/SEG13 (io), H4 PA18/SEG12 (io), H9 PC29/RTS1/PWM1/WKUP15 (io), H11 PC28/SCK1/PWM0/WKUP14 (io), J2 PA23/SEG17 (io), J3 PA24/SEG18 (io), J4 PA21/SEG15 (io), J5 PA20/SEG14 (io), J6 PB8/SEG28 (io), J7 PB9/SEG29 (io), J8 PB14/NPCS1/SEG34 (io), K4 PA25/SEG19 (io), K5 PB3/SEG23 (io), K6 PB10/SEG30 (io), K7 PB13/NPCS2/SEG33 (io), K8 PB15/RTS1/SEG35 (io), K9 PB20/PWM2/COM6 (io), L4 PB4/SEG24 (io), L5 PB5/SEG25 (io), L6 PB11/SEG31 (io), L7 PB12/NPCS3/SEG32 (io), L8 PB17/DTR1/SEG37 (io), L9 PB19/PWM1/SEG39 (io), L10 PB22/NPCS1/PCK1/COM8 (io), L11 PB23/PCK0/NPCS3/COM9 (io), M2 PB0/SEG20 (io), M3 PB1/SEG21 (io), M4 PB2/SEG22 (io), M5 PB6/SEG26 (io), M6 PB7/SEG27 (io), M8 PB16/RTS0/SEG36 (io), M9 PB18/PWM0/SEG38 (io), M10 PB21/PWM3/COM7 (io)
part B pins: A1 XOUT (out), A2 XIN/PGMCK (in), A6 PLLRC (in), B3 NRSTB (in), B4 TST (in), C4 CLKIN (in), C5 FWUP (in), G9 NRST (io), G11 ERASE (in), G12 VDDOUT (power), H1 CAPM2, H12 AD0 (in), J1 CAPP2, J12 AD1 (in), K1 CAPM1, K12 AD2 (in), L1 CAPP1, L12 AD3 (in), M12 ADVREF (power)
part C pins: B5 TDO (out), C6 TDI (in), F9 TCK (in), F10 JTAGSEL (in), G10 TMS (in)
part D pins: A3 VDDCORE (power), A4 GND (power), A5 PLLRCGND (power), A10 NC (power), B7 GND (power), B8 NC (power), D4 NC (power), E1 VDDIO2 (power), E6 VDDIO1 (power), E7 VDDIO1 (power), E8 VDDIO1 (power), E12 VDDCORE (power), F1 VDDLCD (power), F5 GND (power), F6 GND (power), F7 GND (power), F8 VDDIO1 (power), F12 VDDIO1 (power), G1 VDD3V6 (power), G5 GND (power), G6 GND (power), G7 GND (power), G8 VDDIO1 (power), H5 GND (power), H6 GND (power), H7 GND (power), H8 VDDCORE (power), H10 VDDCORE (power), J9 VDDCORE (power), J10 VDDCORE (power), J11 VDDCORE (power), K2 VDDIO2 (power), K3 VDDIO2 (power), K10 VDDCORE (power), K11 VDDCORE (power), L2 VDDIO2 (power), L3 VDDIO2 (power), M1 VDDINLCD (power), M7 VDDIO2 (power), M11 GND (power)

## AT91SAM7S16-AU
designator U?
AT91 ARM Thumb-based 32-bit Microcontroller, 16KB Flash, 4KB SRAM, 48-Pin LQFP, 9-ch. PDC, Industrial Grade (-40°C to 85°C), Pb-Free; Published: 20-Sep-2010; DatasheetVersion: revJ, Dec-2009; PackageVersion: revC, Oct-2001; PackageReference: 48AA; Publisher: Altium Limited; PackageDescription: 48-Pin Plastic Low Profile Quad Flat Pack (LQFP), 7 x 7 x 1.4 mm Body, 0.5 mm Pitch; Supplier 1: Digi-Key; Supplier Part Number 1: AT91SAM7S16-AU-ND; Supplier 2: Farnell; Supplier Part Number 2: 1715465; Supplier 3: Mouser; Supplier Part Number 3: 556-AT91SAM7S16-AU; Code_JEDEC: MS-026-BBC; ComponentLink1Description: Manufacturer Link; ComponentLink1URL: http://www.atmel.com/products/AT91/default.asp?; ComponentLink2Description: AT91SAM7S Series Datasheet; ComponentLink2URL: http://www.atmel.com/dyn/resources/prod_documents/doc6175.pdf; ComponentLink3Description: AT91SAM7S Series Summary; ComponentLink3URL: http://www.atmel.com/dyn/resources/prod_documents/6175s.pdf; ComponentLink4Description: ARM7TDMI Reference Manual; ComponentLink4URL: http://www.atmel.com/dyn/resources/prod_documents/DDI0029G_7TDMI_R3_trm.pdf; ComponentLink5Description: Atmel.com Home; ComponentLink5URL: http://www.atmel.com
footprint 48AA_N (Thin QFP, 48-Leads, Body 7x7mm, Pitch 0.5mm, IPC Medium Density)
footprint 48AA_L (Thin QFP, 48-Leads, Body 7x7mm, Pitch 0.5mm, IPC High Density)
footprint 48AA_M (Thin QFP, 48-Leads, Body 7x7mm, Pitch 0.5mm, IPC Low Density)
part A pins: 3 AD4 (in), 4 AD5 (in), 5 AD6 (in), 6 AD7 (in), 9 PA17/PGMD5/AD0/TD/PCK1/AD0 (io), 10 PA18/PGMD6/AD1/RD/PCK2/AD1 (io), 11 PA19/PGMD7/AD2/RK/FIQ/AD2 (io), 12 PA20/AD3/RF/IRQ0/AD3 (io), 14 PA16/PGMD4/TK/TIOB1 (io), 15 PA15/PGMD3/TF/TIOA1 (io), 16 PA14/PGMD2/SPCK/PWM3 (io), 17 PA13/PGMD1/MOSI/PWM2 (io), 19 PA12/PGMD0/MISO/PWM1 (io), 20 PA11/PGMM3/NPCS0/PWM0 (io), 21 PA10/PGMM2/DTXD/NPCS2 (io), 22 PA9/PGMM1/DRXD/NPCS1 (io), 23 PA8/PGMM0/CTS0/ADTRG (io), 24 PA7/PGMNVALID/RTS0/PWM3 (io), 26 PA6/PGMNOE/TXD0/PCK0 (io), 27 PA5/PGMRDY/RXD0/NPCS3 (io), 28 PA4/PGMNCMD/TWCK/TCLK0 (io), 31 PA3/TWD/NPCS3 (io), 32 PA2/PGMEN2/PWM2/SCK0 (io), 35 PA1/PGMEN1/PWM1/TIOB0 (io), 36 PA0/PGMEN0/PWM0/TIOA0 (io)
part B pins: 1 ADVREF (in), 7 VDDIN (power), 8 VDDOUT (power), 29 NRST (io), 30 TST (in), 42 ERASE (in), 45 XOUT (out), 46 XIN/PGMCK (in), 47 PLLRC (in)
part C pins: 25 TDI (in), 37 TDO (out), 38 JTAGSEL (in), 39 TMS (in), 40 TCK (in)
part D pins: 2 GND (power), 13 VDDIO (power), 18 VDDCORE (power), 33 VDDIO (power), 34 GND (power), 41 VDDCORE (power), 43 VDDFLASH (power), 44 GND (power), 48 VDDPLL (power)

## AT91SAM7S16-MU
designator U?
AT91 ARM Thumb-based 32-bit Microcontroller, 16KB Flash, 4KB SRAM, 48-Pin QFN, 9-ch. PDC, Industrial Grade (-40°C to 85°C), Pb-Free; Published: 20-Sep-2010; DatasheetVersion: revJ, Dec-2009; PackageVersion: Apr-2006; PackageReference: QFN48; Publisher: Altium Limited; PackageDescription: 48-Pin Quad Flat No-Lead 0.5 mm Pitch; Supplier 1: Digi-Key; Supplier Part Number 1: AT91SAM7S16-MU-ND; Supplier 2: Mouser; Supplier Part Number 2: 556-AT91SAM7S16-MU; ComponentLink1Description: Manufacturer Link; ComponentLink1URL: http://www.atmel.com/products/AT91/default.asp?; ComponentLink2Description: AT91SAM7S Series Datasheet; ComponentLink2URL: http://www.atmel.com/dyn/resources/prod_documents/doc6175.pdf; ComponentLink3Description: AT91SAM7S Series Summary; ComponentLink3URL: http://www.atmel.com/dyn/resources/prod_documents/6175s.pdf; ComponentLink4Description: ARM7TDMI Reference Manual; ComponentLink4URL: http://www.atmel.com/dyn/resources/prod_documents/DDI0029G_7TDMI_R3_trm.pdf; ComponentLink5Description: Atmel.com Home; ComponentLink5URL: http://www.atmel.com
footprint QFN48_N (QFN, 48-Leads, Body 7x7mm, Pitch 0.5mm, IPC Medium Density)
footprint QFN48_L (QFN, 48-Leads, Body 7x7mm, Pitch 0.5mm, IPC High Density)
footprint QFN48_M (QFN, 48-Leads, Body 7x7mm, Pitch 0.5mm, IPC Low Density)
part A pins: 3 AD4 (in), 4 AD5 (in), 5 AD6 (in), 6 AD7 (in), 9 PA17/PGMD5/AD0/TD/PCK1/AD0 (io), 10 PA18/PGMD6/AD1/RD/PCK2/AD1 (io), 11 PA19/PGMD7/AD2/RK/FIQ/AD2 (io), 12 PA20/AD3/RF/IRQ0/AD3 (io), 14 PA16/PGMD4/TK/TIOB1 (io), 15 PA15/PGMD3/TF/TIOA1 (io), 16 PA14/PGMD2/SPCK/PWM3 (io), 17 PA13/PGMD1/MOSI/PWM2 (io), 19 PA12/PGMD0/MISO/PWM1 (io), 20 PA11/PGMM3/NPCS0/PWM0 (io), 21 PA10/PGMM2/DTXD/NPCS2 (io), 22 PA9/PGMM1/DRXD/NPCS1 (io), 23 PA8/PGMM0/CTS0/ADTRG (io), 24 PA7/PGMNVALID/RTS0/PWM3 (io), 26 PA6/PGMNOE/TXD0/PCK0 (io), 27 PA5/PGMRDY/RXD0/NPCS3 (io), 28 PA4/PGMNCMD/TWCK/TCLK0 (io), 31 PA3/TWD/NPCS3 (io), 32 PA2/PGMEN2/PWM2/SCK0 (io), 35 PA1/PGMEN1/PWM1/TIOB0 (io), 36 PA0/PGMEN0/PWM0/TIOA0 (io)
part B pins: 1 ADVREF (in), 7 VDDIN (power), 8 VDDOUT (power), 29 NRST (io), 30 TST (in), 42 ERASE (in), 45 XOUT (out), 46 XIN/PGMCK (in), 47 PLLRC (in)
part C pins: 25 TDI (in), 37 TDO (out), 38 JTAGSEL (in), 39 TMS (in), 40 TCK (in)
part D pins: 2 GND (power), 13 VDDIO (power), 18 VDDCORE (power), 33 VDDIO (power), 34 GND (power), 41 VDDCORE (power), 43 VDDFLASH (power), 44 GND (power), 48 VDDPLL (power), 49 DAP (power)

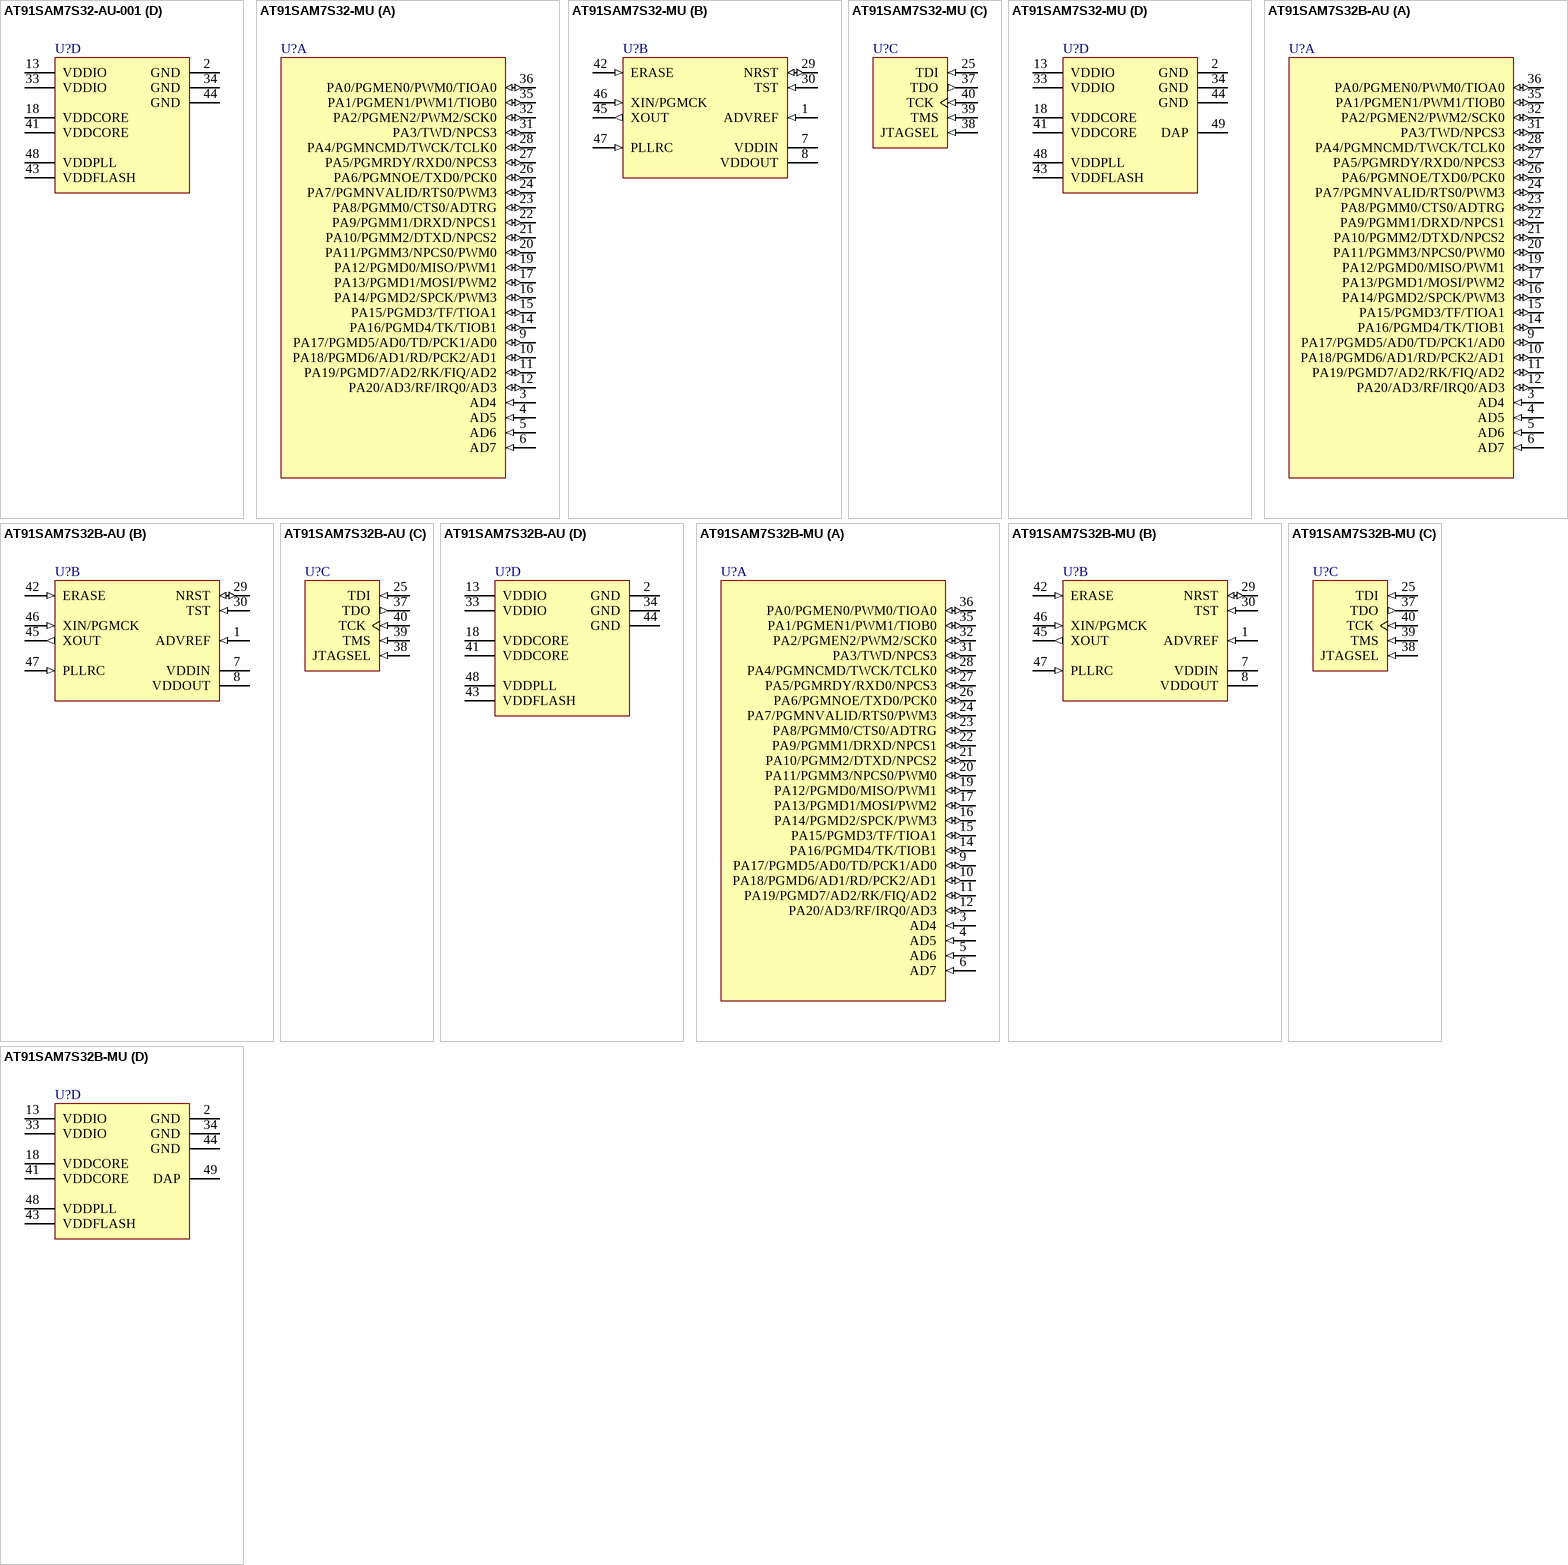
[diagram p9: symbols AT91SAM7S32-AU-001 to AT91SAM7S32B-MU]

## AT91SAM7S32-AU-001
designator U?
AT91 ARM Thumb-based 32-bit Microcontroller, 32KB Flash, 8KB SRAM, 48-Pin LQFP, 9-ch. PDC, Industrial Grade (-40°C to 85°C), Pb-Free; Published: 16-Oct-2006; DatasheetVersion: revJ, Dec-2009; PackageVersion: revC, Oct-2001; PackageReference: 48AA; Publisher: Altium Limited; PackageDescription: 48-Pin Plastic Low Profile Quad Flat Pack (LQFP), 7 x 7 x 1.4 mm Body, 0.5 mm Pitch; Supplier 1: Digi-Key; Supplier Part Number 1: AT91SAM7S32-AU001-ND; Supplier 2: Farnell; Supplier Part Number 2: 1095461; Supplier 3: Mouser; Supplier Part Number 3: 556-A91SAM7S32AU001; Code_JEDEC: MS-026-BBC; ComponentLink1Description: Manufacturer Link; ComponentLink1URL: http://www.atmel.com/products/AT91/default.asp?; ComponentLink2Description: AT91SAM7S Series Datasheet; ComponentLink2URL: http://www.atmel.com/dyn/resources/prod_documents/doc6175.pdf; ComponentLink3Description: AT91SAM7S Series Summary; ComponentLink3URL: http://www.atmel.com/dyn/resources/prod_documents/6175s.pdf; ComponentLink4Description: ARM7TDMI Reference Manual; ComponentLink4URL: http://www.atmel.com/dyn/resources/prod_documents/DDI0029G_7TDMI_R3_trm.pdf; ComponentLink5Description: Atmel.com Home; ComponentLink5URL: http://www.atmel.com
footprint 48AA_N (Thin QFP, 48-Leads, Body 7x7mm, Pitch 0.5mm, IPC Medium Density)
footprint 48AA_L (Thin QFP, 48-Leads, Body 7x7mm, Pitch 0.5mm, IPC High Density)
footprint 48AA_M (Thin QFP, 48-Leads, Body 7x7mm, Pitch 0.5mm, IPC Low Density)
part A pins: 3 AD4 (in), 4 AD5 (in), 5 AD6 (in), 6 AD7 (in), 9 PA17/PGMD5/AD0/TD/PCK1/AD0 (io), 10 PA18/PGMD6/AD1/RD/PCK2/AD1 (io), 11 PA19/PGMD7/AD2/RK/FIQ/AD2 (io), 12 PA20/AD3/RF/IRQ0/AD3 (io), 14 PA16/PGMD4/TK/TIOB1 (io), 15 PA15/PGMD3/TF/TIOA1 (io), 16 PA14/PGMD2/SPCK/PWM3 (io), 17 PA13/PGMD1/MOSI/PWM2 (io), 19 PA12/PGMD0/MISO/PWM1 (io), 20 PA11/PGMM3/NPCS0/PWM0 (io), 21 PA10/PGMM2/DTXD/NPCS2 (io), 22 PA9/PGMM1/DRXD/NPCS1 (io), 23 PA8/PGMM0/CTS0/ADTRG (io), 24 PA7/PGMNVALID/RTS0/PWM3 (io), 26 PA6/PGMNOE/TXD0/PCK0 (io), 27 PA5/PGMRDY/RXD0/NPCS3 (io), 28 PA4/PGMNCMD/TWCK/TCLK0 (io), 31 PA3/TWD/NPCS3 (io), 32 PA2/PGMEN2/PWM2/SCK0 (io), 35 PA1/PGMEN1/PWM1/TIOB0 (io), 36 PA0/PGMEN0/PWM0/TIOA0 (io)
part B pins: 1 ADVREF (in), 7 VDDIN (power), 8 VDDOUT (power), 29 NRST (io), 30 TST (in), 42 ERASE (in), 45 XOUT (out), 46 XIN/PGMCK (in), 47 PLLRC (in)
part C pins: 25 TDI (in), 37 TDO (out), 38 JTAGSEL (in), 39 TMS (in), 40 TCK (in)
part D pins: 2 GND (power), 13 VDDIO (power), 18 VDDCORE (power), 33 VDDIO (power), 34 GND (power), 41 VDDCORE (power), 43 VDDFLASH (power), 44 GND (power), 48 VDDPLL (power)

## AT91SAM7S32-MU
designator U?
AT91 ARM Thumb-based 32-bit Microcontroller, 32KB Flash, 8KB SRAM, 48-Pin QFN, 9-ch. PDC, Industrial Grade (-40°C to 85°C), Pb-Free; Published: 16-Oct-2006; DatasheetVersion: revJ, Dec-2009; PackageVersion: Apr-2006; PackageReference: QFN48; Publisher: Altium Limited; PackageDescription: 48-Pin Quad Flat No-Lead 0.5 mm Pitch; Supplier 1: Digi-Key; Supplier Part Number 1: AT91SAM7S32-MU-ND; Supplier 2: Mouser; Supplier Part Number 2: 556-A91SAM7S32-MU; ComponentLink1Description: Manufacturer Link; ComponentLink1URL: http://www.atmel.com/products/AT91/default.asp?; ComponentLink2Description: AT91SAM7S Series Datasheet; ComponentLink2URL: http://www.atmel.com/dyn/resources/prod_documents/doc6175.pdf; ComponentLink3Description: AT91SAM7S Series Summary; ComponentLink3URL: http://www.atmel.com/dyn/resources/prod_documents/6175s.pdf; ComponentLink4Description: ARM7TDMI Reference Manual; ComponentLink4URL: http://www.atmel.com/dyn/resources/prod_documents/DDI0029G_7TDMI_R3_trm.pdf; ComponentLink5Description: Atmel.com Home; ComponentLink5URL: http://www.atmel.com
footprint QFN48_N (QFN, 48-Leads, Body 7x7mm, Pitch 0.5mm, IPC Medium Density)
footprint QFN48_L (QFN, 48-Leads, Body 7x7mm, Pitch 0.5mm, IPC High Density)
footprint QFN48_M (QFN, 48-Leads, Body 7x7mm, Pitch 0.5mm, IPC Low Density)
part A pins: 3 AD4 (in), 4 AD5 (in), 5 AD6 (in), 6 AD7 (in), 9 PA17/PGMD5/AD0/TD/PCK1/AD0 (io), 10 PA18/PGMD6/AD1/RD/PCK2/AD1 (io), 11 PA19/PGMD7/AD2/RK/FIQ/AD2 (io), 12 PA20/AD3/RF/IRQ0/AD3 (io), 14 PA16/PGMD4/TK/TIOB1 (io), 15 PA15/PGMD3/TF/TIOA1 (io), 16 PA14/PGMD2/SPCK/PWM3 (io), 17 PA13/PGMD1/MOSI/PWM2 (io), 19 PA12/PGMD0/MISO/PWM1 (io), 20 PA11/PGMM3/NPCS0/PWM0 (io), 21 PA10/PGMM2/DTXD/NPCS2 (io), 22 PA9/PGMM1/DRXD/NPCS1 (io), 23 PA8/PGMM0/CTS0/ADTRG (io), 24 PA7/PGMNVALID/RTS0/PWM3 (io), 26 PA6/PGMNOE/TXD0/PCK0 (io), 27 PA5/PGMRDY/RXD0/NPCS3 (io), 28 PA4/PGMNCMD/TWCK/TCLK0 (io), 31 PA3/TWD/NPCS3 (io), 32 PA2/PGMEN2/PWM2/SCK0 (io), 35 PA1/PGMEN1/PWM1/TIOB0 (io), 36 PA0/PGMEN0/PWM0/TIOA0 (io)
part B pins: 1 ADVREF (in), 7 VDDIN (power), 8 VDDOUT (power), 29 NRST (io), 30 TST (in), 42 ERASE (in), 45 XOUT (out), 46 XIN/PGMCK (in), 47 PLLRC (in)
part C pins: 25 TDI (in), 37 TDO (out), 38 JTAGSEL (in), 39 TMS (in), 40 TCK (in)
part D pins: 2 GND (power), 13 VDDIO (power), 18 VDDCORE (power), 33 VDDIO (power), 34 GND (power), 41 VDDCORE (power), 43 VDDFLASH (power), 44 GND (power), 48 VDDPLL (power), 49 DAP (power)

## AT91SAM7S32B-AU
designator U?
AT91 ARM Thumb-based 32-bit Microcontroller, 32KB Flash, 8KB SRAM, 48-Pin LQFP, 9-ch. PDC, Industrial Grade (-40°C to 85°C), Pb-Free; Published: 20-Sep-2010; DatasheetVersion: revJ, Dec-2009; PackageVersion: revC, Oct-2001; PackageReference: 48AA; Publisher: Altium Limited; PackageDescription: 48-Pin Plastic Low Profile Quad Flat Pack (LQFP), 7 x 7 x 1.4 mm Body, 0.5 mm Pitch; Supplier 1: Digi-Key; Supplier Part Number 1: AT91SAM7S32B-AU-ND; Code_JEDEC: MS-026-BBC; ComponentLink1Description: Manufacturer Link; ComponentLink1URL: http://www.atmel.com/products/AT91/default.asp?; ComponentLink2Description: AT91SAM7S Series Datasheet; ComponentLink2URL: http://www.atmel.com/dyn/resources/prod_documents/doc6175.pdf; ComponentLink3Description: AT91SAM7S Series Summary; ComponentLink3URL: http://www.atmel.com/dyn/resources/prod_documents/6175s.pdf; ComponentLink4Description: ARM7TDMI Reference Manual; ComponentLink4URL: http://www.atmel.com/dyn/resources/prod_documents/DDI0029G_7TDMI_R3_trm.pdf; ComponentLink5Description: Atmel.com Home; ComponentLink5URL: http://www.atmel.com
footprint 48AA_N (Thin QFP, 48-Leads, Body 7x7mm, Pitch 0.5mm, IPC Medium Density)
footprint 48AA_L (Thin QFP, 48-Leads, Body 7x7mm, Pitch 0.5mm, IPC High Density)
footprint 48AA_M (Thin QFP, 48-Leads, Body 7x7mm, Pitch 0.5mm, IPC Low Density)
part A pins: 3 AD4 (in), 4 AD5 (in), 5 AD6 (in), 6 AD7 (in), 9 PA17/PGMD5/AD0/TD/PCK1/AD0 (io), 10 PA18/PGMD6/AD1/RD/PCK2/AD1 (io), 11 PA19/PGMD7/AD2/RK/FIQ/AD2 (io), 12 PA20/AD3/RF/IRQ0/AD3 (io), 14 PA16/PGMD4/TK/TIOB1 (io), 15 PA15/PGMD3/TF/TIOA1 (io), 16 PA14/PGMD2/SPCK/PWM3 (io), 17 PA13/PGMD1/MOSI/PWM2 (io), 19 PA12/PGMD0/MISO/PWM1 (io), 20 PA11/PGMM3/NPCS0/PWM0 (io), 21 PA10/PGMM2/DTXD/NPCS2 (io), 22 PA9/PGMM1/DRXD/NPCS1 (io), 23 PA8/PGMM0/CTS0/ADTRG (io), 24 PA7/PGMNVALID/RTS0/PWM3 (io), 26 PA6/PGMNOE/TXD0/PCK0 (io), 27 PA5/PGMRDY/RXD0/NPCS3 (io), 28 PA4/PGMNCMD/TWCK/TCLK0 (io), 31 PA3/TWD/NPCS3 (io), 32 PA2/PGMEN2/PWM2/SCK0 (io), 35 PA1/PGMEN1/PWM1/TIOB0 (io), 36 PA0/PGMEN0/PWM0/TIOA0 (io)
part B pins: 1 ADVREF (in), 7 VDDIN (power), 8 VDDOUT (power), 29 NRST (io), 30 TST (in), 42 ERASE (in), 45 XOUT (out), 46 XIN/PGMCK (in), 47 PLLRC (in)
part C pins: 25 TDI (in), 37 TDO (out), 38 JTAGSEL (in), 39 TMS (in), 40 TCK (in)
part D pins: 2 GND (power), 13 VDDIO (power), 18 VDDCORE (power), 33 VDDIO (power), 34 GND (power), 41 VDDCORE (power), 43 VDDFLASH (power), 44 GND (power), 48 VDDPLL (power)

## AT91SAM7S32B-MU
designator U?
AT91 ARM Thumb-based 32-bit Microcontroller, 32KB Flash, 8KB SRAM, 48-Pin QFN, 9-ch. PDC, Industrial Grade (-40°C to 85°C), Pb-Free; Published: 20-Sep-2010; DatasheetVersion: revJ, Dec-2009; PackageVersion: Apr-2006; PackageReference: QFN48; Publisher: Altium Limited; PackageDescription: 48-Pin Quad Flat No-Lead 0.5 mm Pitch; Supplier 1: Digi-Key; Supplier Part Number 1: AT91SAM7S32B-MU-ND; ComponentLink1Description: Manufacturer Link; ComponentLink1URL: http://www.atmel.com/products/AT91/default.asp?; ComponentLink2Description: AT91SAM7S Series Datasheet; ComponentLink2URL: http://www.atmel.com/dyn/resources/prod_documents/doc6175.pdf; ComponentLink3Description: AT91SAM7S Series Summary; ComponentLink3URL: http://www.atmel.com/dyn/resources/prod_documents/6175s.pdf; ComponentLink4Description: ARM7TDMI Reference Manual; ComponentLink4URL: http://www.atmel.com/dyn/resources/prod_documents/DDI0029G_7TDMI_R3_trm.pdf; ComponentLink5Description: Atmel.com Home; ComponentLink5URL: http://www.atmel.com
footprint QFN48_N (QFN, 48-Leads, Body 7x7mm, Pitch 0.5mm, IPC Medium Density)
footprint QFN48_L (QFN, 48-Leads, Body 7x7mm, Pitch 0.5mm, IPC High Density)
footprint QFN48_M (QFN, 48-Leads, Body 7x7mm, Pitch 0.5mm, IPC Low Density)
part A pins: 3 AD4 (in), 4 AD5 (in), 5 AD6 (in), 6 AD7 (in), 9 PA17/PGMD5/AD0/TD/PCK1/AD0 (io), 10 PA18/PGMD6/AD1/RD/PCK2/AD1 (io), 11 PA19/PGMD7/AD2/RK/FIQ/AD2 (io), 12 PA20/AD3/RF/IRQ0/AD3 (io), 14 PA16/PGMD4/TK/TIOB1 (io), 15 PA15/PGMD3/TF/TIOA1 (io), 16 PA14/PGMD2/SPCK/PWM3 (io), 17 PA13/PGMD1/MOSI/PWM2 (io), 19 PA12/PGMD0/MISO/PWM1 (io), 20 PA11/PGMM3/NPCS0/PWM0 (io), 21 PA10/PGMM2/DTXD/NPCS2 (io), 22 PA9/PGMM1/DRXD/NPCS1 (io), 23 PA8/PGMM0/CTS0/ADTRG (io), 24 PA7/PGMNVALID/RTS0/PWM3 (io), 26 PA6/PGMNOE/TXD0/PCK0 (io), 27 PA5/PGMRDY/RXD0/NPCS3 (io), 28 PA4/PGMNCMD/TWCK/TCLK0 (io), 31 PA3/TWD/NPCS3 (io), 32 PA2/PGMEN2/PWM2/SCK0 (io), 35 PA1/PGMEN1/PWM1/TIOB0 (io), 36 PA0/PGMEN0/PWM0/TIOA0 (io)
part B pins: 1 ADVREF (in), 7 VDDIN (power), 8 VDDOUT (power), 29 NRST (io), 30 TST (in), 42 ERASE (in), 45 XOUT (out), 46 XIN/PGMCK (in), 47 PLLRC (in)
part C pins: 25 TDI (in), 37 TDO (out), 38 JTAGSEL (in), 39 TMS (in), 40 TCK (in)
part D pins: 2 GND (power), 13 VDDIO (power), 18 VDDCORE (power), 33 VDDIO (power), 34 GND (power), 41 VDDCORE (power), 43 VDDFLASH (power), 44 GND (power), 48 VDDPLL (power), 49 DAP (power)

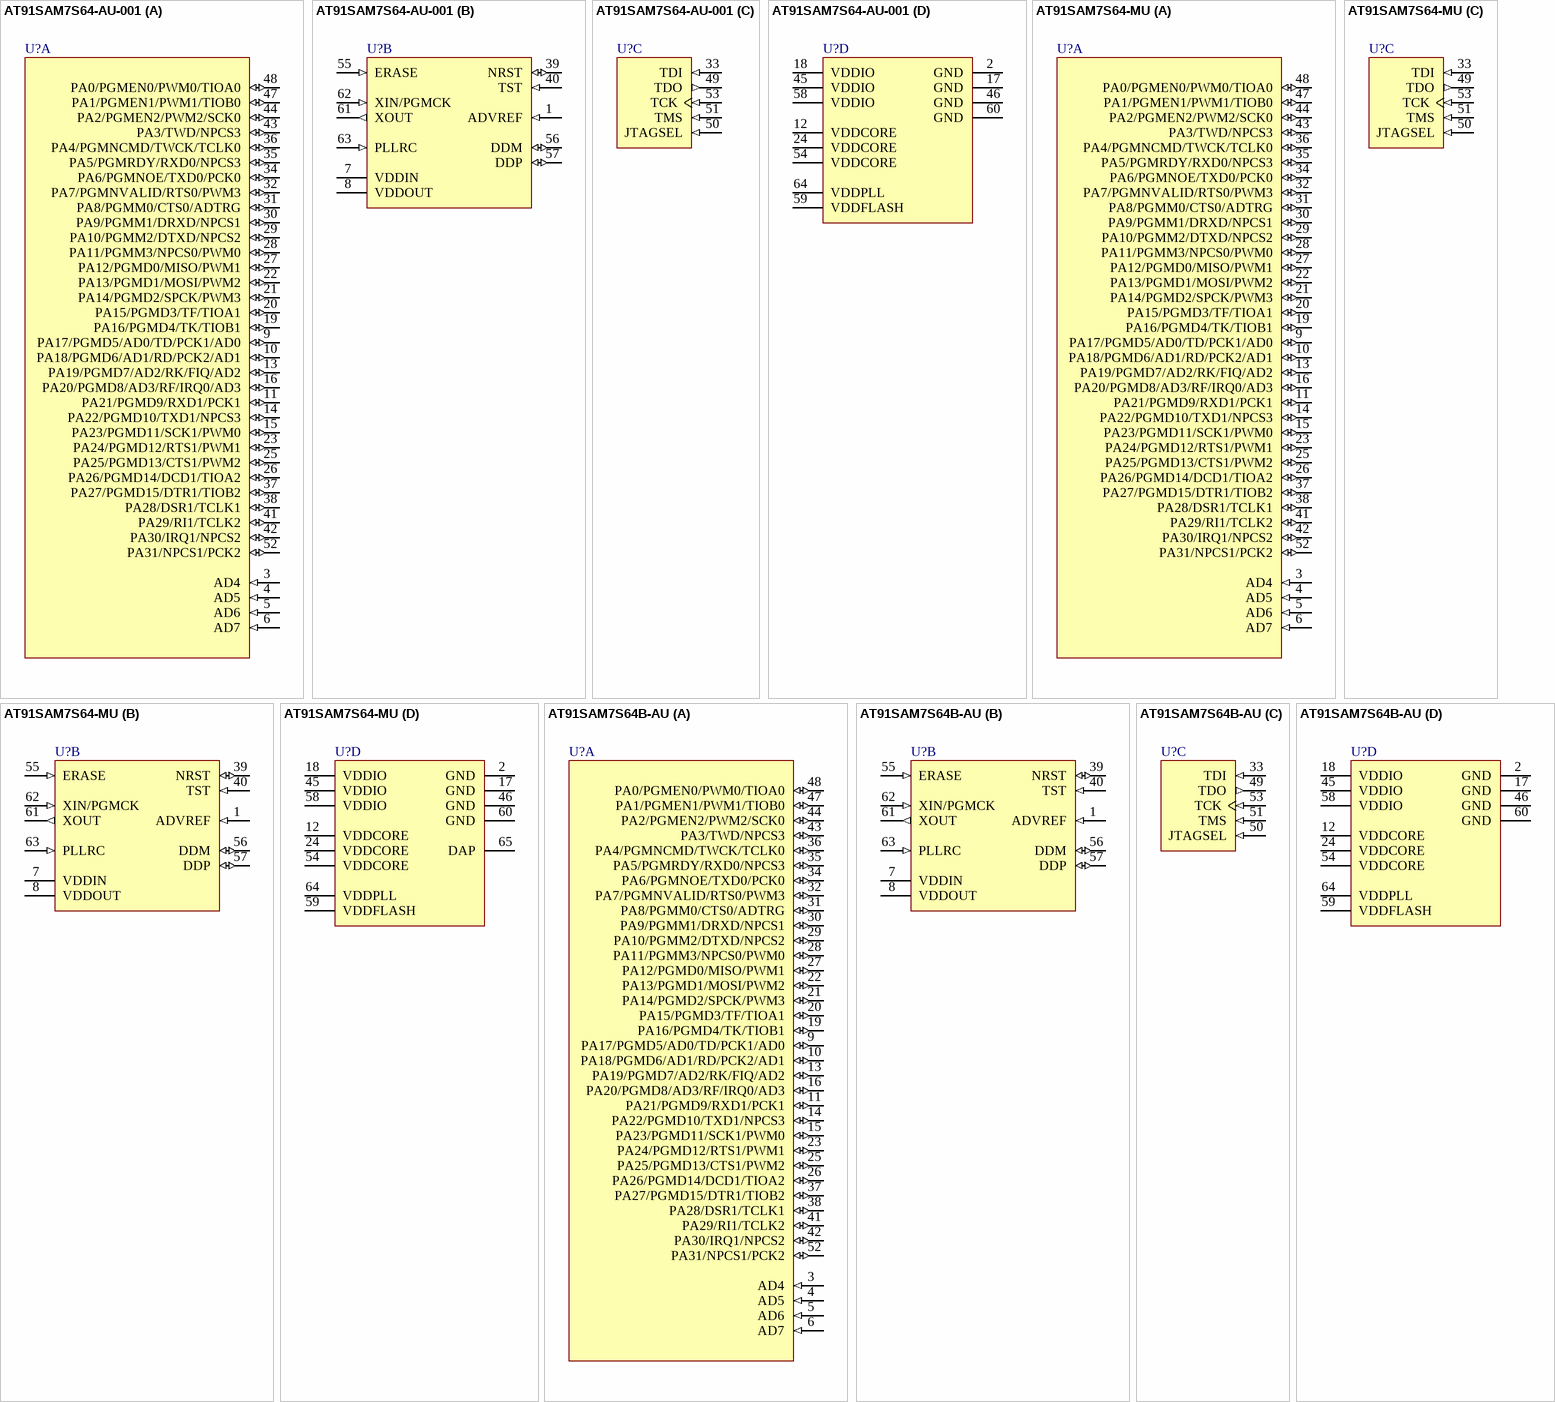
[diagram p10: symbols AT91SAM7S64-AU-001 to AT91SAM7S64B-AU]

## AT91SAM7S64-AU-001
designator U?
AT91 ARM Thumb-based 32-bit Microcontroller, 64KB Flash, 16KB SRAM, 11-ch. PDC, 64-Pin LQFP, Industrial Grade (-40°C to 85°C), Pb-Free; Published: 16-Oct-2006; DatasheetVersion: revJ, Dec-2009; PackageVersion: Apr-2006; PackageReference: LQFP64; Publisher: Altium Limited; PackageDescription: 64-Pin Thin Quad Flat Pack 0.5 mm Pitch; Supplier 1: Digi-Key; Supplier Part Number 1: AT91SAM7S64-AU001-ND; Supplier 2: Farnell; Supplier Part Number 2: 1528288; Supplier 3: Farnell; Supplier Part Number 3: 1095462; Supplier 4: Mouser; Supplier Part Number 4: 556-A91SAM7S64AU001; Code_JEDEC: MS-026-BCD; ComponentLink1Description: Manufacturer Link; ComponentLink1URL: http://www.atmel.com/products/AT91/default.asp?; ComponentLink2Description: AT91SAM7S Series Datasheet; ComponentLink2URL: http://www.atmel.com/dyn/resources/prod_documents/doc6175.pdf; ComponentLink3Description: AT91SAM7S Series Summary; ComponentLink3URL: http://www.atmel.com/dyn/resources/prod_documents/6175s.pdf; ComponentLink4Description: ARM7TDMI Reference Manual; ComponentLink4URL: http://www.atmel.com/dyn/resources/prod_documents/DDI0029G_7TDMI_R3_trm.pdf; ComponentLink5Description: Atmel.com Home; ComponentLink5URL: http://www.atmel.com
footprint LQFP64_N (Thin QFP, 64-Leads, Body 10x10mm, Pitch 0.5mm, IPC Medium Density)
footprint LQFP64_L (Thin QFP, 64-Leads, Body 10x10mm, Pitch 0.5mm, IPC High Density)
footprint LQFP64_M (Thin QFP, 64-Leads, Body 10x10mm, Pitch 0.5mm, IPC Low Density)
part A pins: 3 AD4 (in), 4 AD5 (in), 5 AD6 (in), 6 AD7 (in), 9 PA17/PGMD5/AD0/TD/PCK1/AD0 (io), 10 PA18/PGMD6/AD1/RD/PCK2/AD1 (io), 11 PA21/PGMD9/RXD1/PCK1 (io), 13 PA19/PGMD7/AD2/RK/FIQ/AD2 (io), 14 PA22/PGMD10/TXD1/NPCS3 (io), 15 PA23/PGMD11/SCK1/PWM0 (io), 16 PA20/PGMD8/AD3/RF/IRQ0/AD3 (io), 19 PA16/PGMD4/TK/TIOB1 (io), 20 PA15/PGMD3/TF/TIOA1 (io), 21 PA14/PGMD2/SPCK/PWM3 (io), 22 PA13/PGMD1/MOSI/PWM2 (io), 23 PA24/PGMD12/RTS1/PWM1 (io), 25 PA25/PGMD13/CTS1/PWM2 (io), 26 PA26/PGMD14/DCD1/TIOA2 (io), 27 PA12/PGMD0/MISO/PWM1 (io), 28 PA11/PGMM3/NPCS0/PWM0 (io), 29 PA10/PGMM2/DTXD/NPCS2 (io), 30 PA9/PGMM1/DRXD/NPCS1 (io), 31 PA8/PGMM0/CTS0/ADTRG (io), 32 PA7/PGMNVALID/RTS0/PWM3 (io), 34 PA6/PGMNOE/TXD0/PCK0 (io), 35 PA5/PGMRDY/RXD0/NPCS3 (io), 36 PA4/PGMNCMD/TWCK/TCLK0 (io), 37 PA27/PGMD15/DTR1/TIOB2 (io), 38 PA28/DSR1/TCLK1 (io), 41 PA29/RI1/TCLK2 (io), 42 PA30/IRQ1/NPCS2 (io), 43 PA3/TWD/NPCS3 (io), 44 PA2/PGMEN2/PWM2/SCK0 (io), 47 PA1/PGMEN1/PWM1/TIOB0 (io), 48 PA0/PGMEN0/PWM0/TIOA0 (io), 52 PA31/NPCS1/PCK2 (io)
part B pins: 1 ADVREF (in), 7 VDDIN (power), 8 VDDOUT (power), 39 NRST (io), 40 TST (in), 55 ERASE (in), 56 DDM (io), 57 DDP (io), 61 XOUT (out), 62 XIN/PGMCK (in), 63 PLLRC (in)
part C pins: 33 TDI (in), 49 TDO (out), 50 JTAGSEL (in), 51 TMS (in), 53 TCK (in)
part D pins: 2 GND (power), 12 VDDCORE (power), 17 GND (power), 18 VDDIO (power), 24 VDDCORE (power), 45 VDDIO (power), 46 GND (power), 54 VDDCORE (power), 58 VDDIO (power), 59 VDDFLASH (power), 60 GND (power), 64 VDDPLL (power)

## AT91SAM7S64-MU
designator U?
AT91 ARM Thumb-based 32-bit Microcontroller, 64KB Flash, 16KB SRAM, 11-ch. PDC, 64-Pin QFN, Industrial Grade (-40°C to 85°C), Pb-Free; Published: 16-Oct-2006; DatasheetVersion: revJ, Dec-2009; PackageVersion: Apr-2006; PackageReference: QFN64; Publisher: Altium Limited; PackageDescription: 64-Pin Quad Flat No-Lead 0.5 mm Pitch; Supplier 1: Digi-Key; Supplier Part Number 1: AT91SAM7S64-MU-ND; Supplier 2: Mouser; Supplier Part Number 2: 556-A91SAM7S64-MU; Code_JEDEC: MO-220; ComponentLink1Description: Manufacturer Link; ComponentLink1URL: http://www.atmel.com/products/AT91/default.asp?; ComponentLink2Description: AT91SAM7S Series Datasheet; ComponentLink2URL: http://www.atmel.com/dyn/resources/prod_documents/doc6175.pdf; ComponentLink3Description: AT91SAM7S Series Summary; ComponentLink3URL: http://www.atmel.com/dyn/resources/prod_documents/6175s.pdf; ComponentLink4Description: ARM7TDMI Reference Manual; ComponentLink4URL: http://www.atmel.com/dyn/resources/prod_documents/DDI0029G_7TDMI_R3_trm.pdf; ComponentLink5Description: Atmel.com Home; ComponentLink5URL: http://www.atmel.com
footprint QFN64_N (QFN, 64-Leads, Body 9x9mm, Pitch 0.5mm, IPC Medium Density)
footprint QFN64_L (QFN, 64-Leads, Body 9x9mm, Pitch 0.5mm, IPC High Density)
footprint QFN64_M (QFN, 64-Leads, Body 9x9mm, Pitch 0.5mm, IPC Low Density)
part A pins: 3 AD4 (in), 4 AD5 (in), 5 AD6 (in), 6 AD7 (in), 9 PA17/PGMD5/AD0/TD/PCK1/AD0 (io), 10 PA18/PGMD6/AD1/RD/PCK2/AD1 (io), 11 PA21/PGMD9/RXD1/PCK1 (io), 13 PA19/PGMD7/AD2/RK/FIQ/AD2 (io), 14 PA22/PGMD10/TXD1/NPCS3 (io), 15 PA23/PGMD11/SCK1/PWM0 (io), 16 PA20/PGMD8/AD3/RF/IRQ0/AD3 (io), 19 PA16/PGMD4/TK/TIOB1 (io), 20 PA15/PGMD3/TF/TIOA1 (io), 21 PA14/PGMD2/SPCK/PWM3 (io), 22 PA13/PGMD1/MOSI/PWM2 (io), 23 PA24/PGMD12/RTS1/PWM1 (io), 25 PA25/PGMD13/CTS1/PWM2 (io), 26 PA26/PGMD14/DCD1/TIOA2 (io), 27 PA12/PGMD0/MISO/PWM1 (io), 28 PA11/PGMM3/NPCS0/PWM0 (io), 29 PA10/PGMM2/DTXD/NPCS2 (io), 30 PA9/PGMM1/DRXD/NPCS1 (io), 31 PA8/PGMM0/CTS0/ADTRG (io), 32 PA7/PGMNVALID/RTS0/PWM3 (io), 34 PA6/PGMNOE/TXD0/PCK0 (io), 35 PA5/PGMRDY/RXD0/NPCS3 (io), 36 PA4/PGMNCMD/TWCK/TCLK0 (io), 37 PA27/PGMD15/DTR1/TIOB2 (io), 38 PA28/DSR1/TCLK1 (io), 41 PA29/RI1/TCLK2 (io), 42 PA30/IRQ1/NPCS2 (io), 43 PA3/TWD/NPCS3 (io), 44 PA2/PGMEN2/PWM2/SCK0 (io), 47 PA1/PGMEN1/PWM1/TIOB0 (io), 48 PA0/PGMEN0/PWM0/TIOA0 (io), 52 PA31/NPCS1/PCK2 (io)
part B pins: 1 ADVREF (in), 7 VDDIN (power), 8 VDDOUT (power), 39 NRST (io), 40 TST (in), 55 ERASE (in), 56 DDM (io), 57 DDP (io), 61 XOUT (out), 62 XIN/PGMCK (in), 63 PLLRC (in)
part C pins: 33 TDI (in), 49 TDO (out), 50 JTAGSEL (in), 51 TMS (in), 53 TCK (in)
part D pins: 2 GND (power), 12 VDDCORE (power), 17 GND (power), 18 VDDIO (power), 24 VDDCORE (power), 45 VDDIO (power), 46 GND (power), 54 VDDCORE (power), 58 VDDIO (power), 59 VDDFLASH (power), 60 GND (power), 64 VDDPLL (power), 65 DAP (power)

## AT91SAM7S64B-AU
designator U?
AT91 ARM Thumb-based 32-bit Microcontroller, 64KB Flash, 16KB SRAM, 11-ch. PDC, 64-Pin LQFP, Industrial Grade (-40°C to 85°C), Pb-Free; Published: 20-Sep-2010; DatasheetVersion: revJ, Dec-2009; PackageVersion: Apr-2006; PackageReference: LQFP64; Publisher: Altium Limited; PackageDescription: 64-Pin Thin Quad Flat Pack 0.5 mm Pitch; Supplier 1: Digi-Key; Supplier Part Number 1: AT91SAM7S64B-AU-ND; Supplier 2: Farnell; Supplier Part Number 2: 1699393; Supplier 3: Mouser; Supplier Part Number 3: 556-AT91SAM7S64B-AU; Code_JEDEC: MS-026-BCD; ComponentLink1Description: Manufacturer Link; ComponentLink1URL: http://www.atmel.com/products/AT91/default.asp?; ComponentLink2Description: AT91SAM7S Series Datasheet; ComponentLink2URL: http://www.atmel.com/dyn/resources/prod_documents/doc6175.pdf; ComponentLink3Description: AT91SAM7S Series Summary; ComponentLink3URL: http://www.atmel.com/dyn/resources/prod_documents/6175s.pdf; ComponentLink4Description: ARM7TDMI Reference Manual; ComponentLink4URL: http://www.atmel.com/dyn/resources/prod_documents/DDI0029G_7TDMI_R3_trm.pdf; ComponentLink5Description: Atmel.com Home; ComponentLink5URL: http://www.atmel.com
footprint LQFP64_N (Thin QFP, 64-Leads, Body 10x10mm, Pitch 0.5mm, IPC Medium Density)
footprint LQFP64_L (Thin QFP, 64-Leads, Body 10x10mm, Pitch 0.5mm, IPC High Density)
footprint LQFP64_M (Thin QFP, 64-Leads, Body 10x10mm, Pitch 0.5mm, IPC Low Density)
part A pins: 3 AD4 (in), 4 AD5 (in), 5 AD6 (in), 6 AD7 (in), 9 PA17/PGMD5/AD0/TD/PCK1/AD0 (io), 10 PA18/PGMD6/AD1/RD/PCK2/AD1 (io), 11 PA21/PGMD9/RXD1/PCK1 (io), 13 PA19/PGMD7/AD2/RK/FIQ/AD2 (io), 14 PA22/PGMD10/TXD1/NPCS3 (io), 15 PA23/PGMD11/SCK1/PWM0 (io), 16 PA20/PGMD8/AD3/RF/IRQ0/AD3 (io), 19 PA16/PGMD4/TK/TIOB1 (io), 20 PA15/PGMD3/TF/TIOA1 (io), 21 PA14/PGMD2/SPCK/PWM3 (io), 22 PA13/PGMD1/MOSI/PWM2 (io), 23 PA24/PGMD12/RTS1/PWM1 (io), 25 PA25/PGMD13/CTS1/PWM2 (io), 26 PA26/PGMD14/DCD1/TIOA2 (io), 27 PA12/PGMD0/MISO/PWM1 (io), 28 PA11/PGMM3/NPCS0/PWM0 (io), 29 PA10/PGMM2/DTXD/NPCS2 (io), 30 PA9/PGMM1/DRXD/NPCS1 (io), 31 PA8/PGMM0/CTS0/ADTRG (io), 32 PA7/PGMNVALID/RTS0/PWM3 (io), 34 PA6/PGMNOE/TXD0/PCK0 (io), 35 PA5/PGMRDY/RXD0/NPCS3 (io), 36 PA4/PGMNCMD/TWCK/TCLK0 (io), 37 PA27/PGMD15/DTR1/TIOB2 (io), 38 PA28/DSR1/TCLK1 (io), 41 PA29/RI1/TCLK2 (io), 42 PA30/IRQ1/NPCS2 (io), 43 PA3/TWD/NPCS3 (io), 44 PA2/PGMEN2/PWM2/SCK0 (io), 47 PA1/PGMEN1/PWM1/TIOB0 (io), 48 PA0/PGMEN0/PWM0/TIOA0 (io), 52 PA31/NPCS1/PCK2 (io)
part B pins: 1 ADVREF (in), 7 VDDIN (power), 8 VDDOUT (power), 39 NRST (io), 40 TST (in), 55 ERASE (in), 56 DDM (io), 57 DDP (io), 61 XOUT (out), 62 XIN/PGMCK (in), 63 PLLRC (in)
part C pins: 33 TDI (in), 49 TDO (out), 50 JTAGSEL (in), 51 TMS (in), 53 TCK (in)
part D pins: 2 GND (power), 12 VDDCORE (power), 17 GND (power), 18 VDDIO (power), 24 VDDCORE (power), 45 VDDIO (power), 46 GND (power), 54 VDDCORE (power), 58 VDDIO (power), 59 VDDFLASH (power), 60 GND (power), 64 VDDPLL (power)

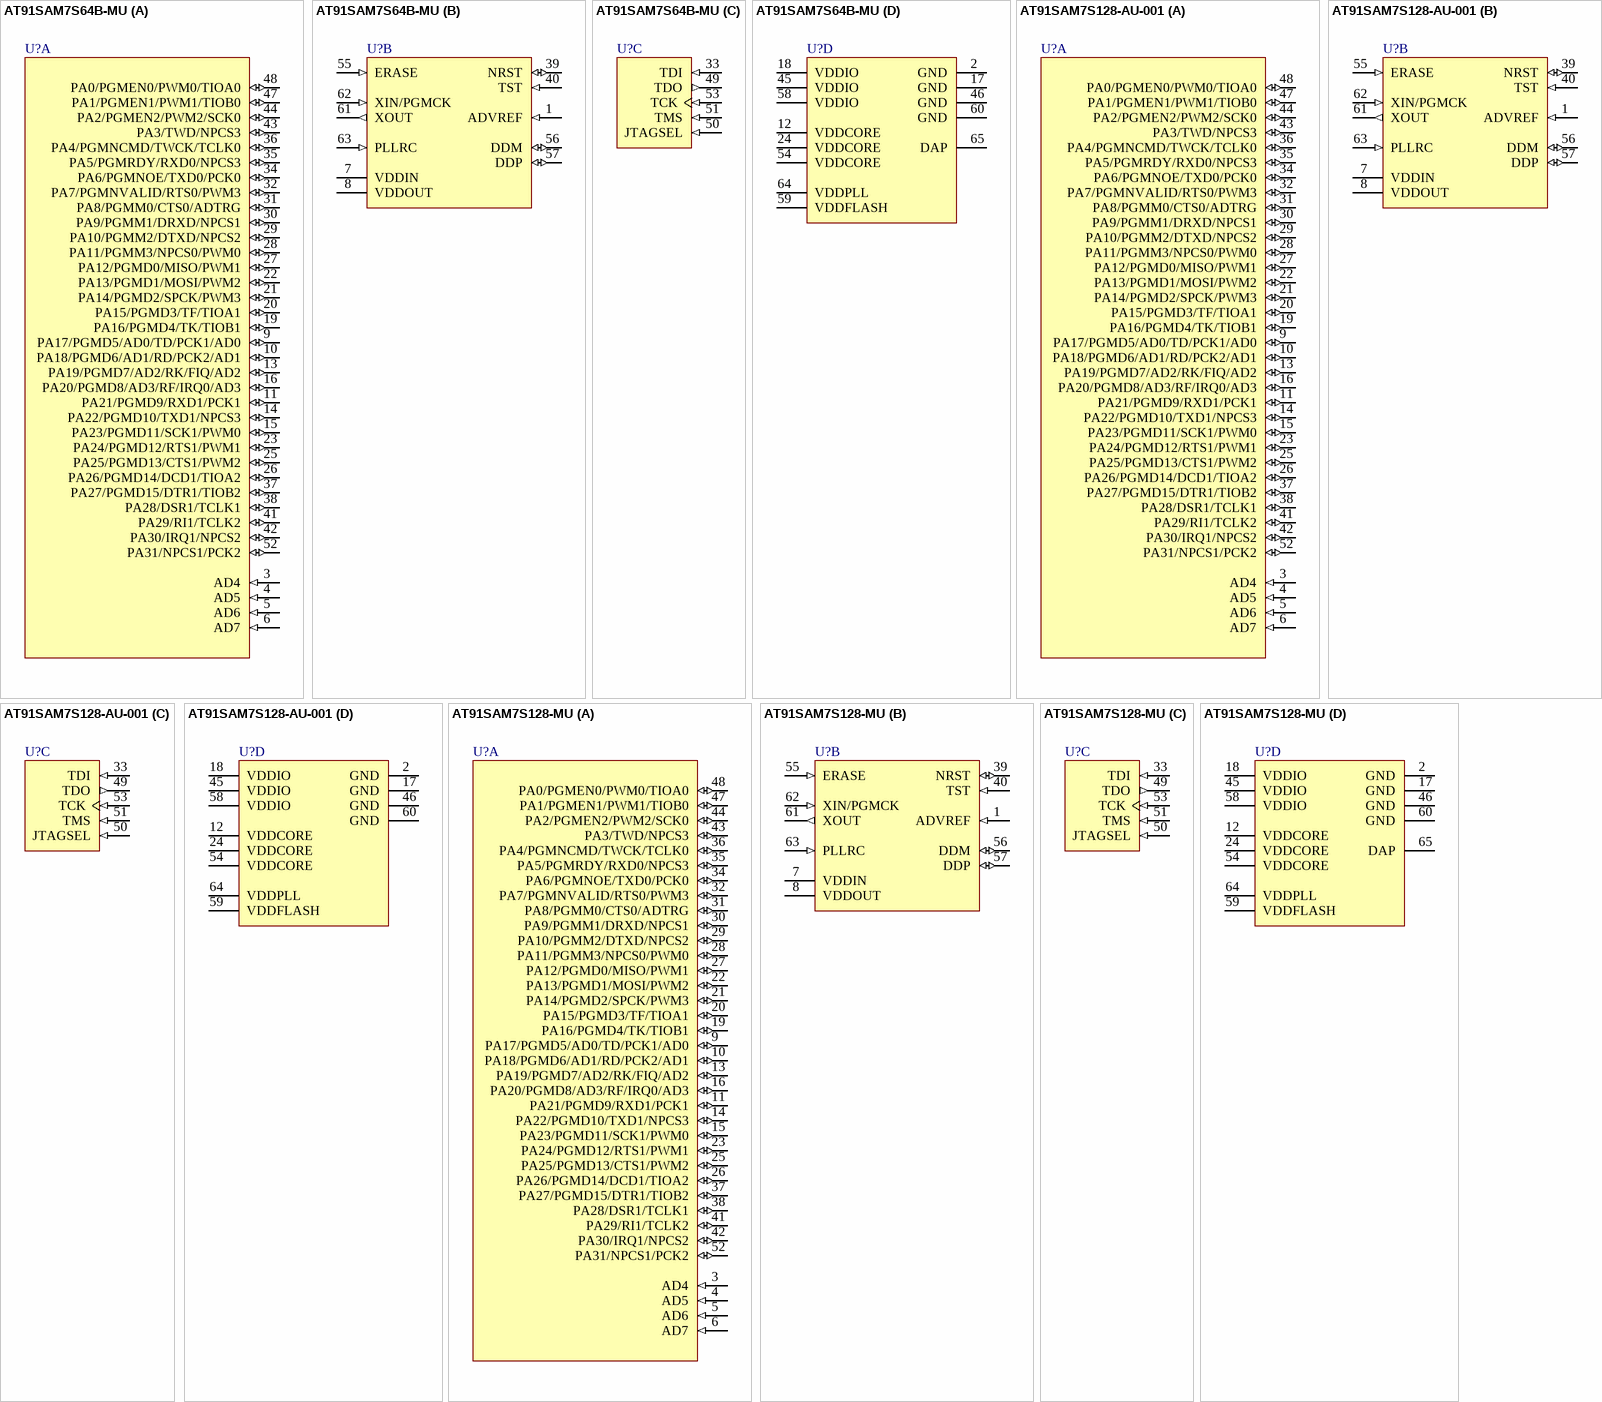
[diagram p11: symbols AT91SAM7S64B-MU to AT91SAM7S128-MU]